# Altium integrated library Altera APEX 20KE.IntLib: 235 symbols (part 11 of 49)
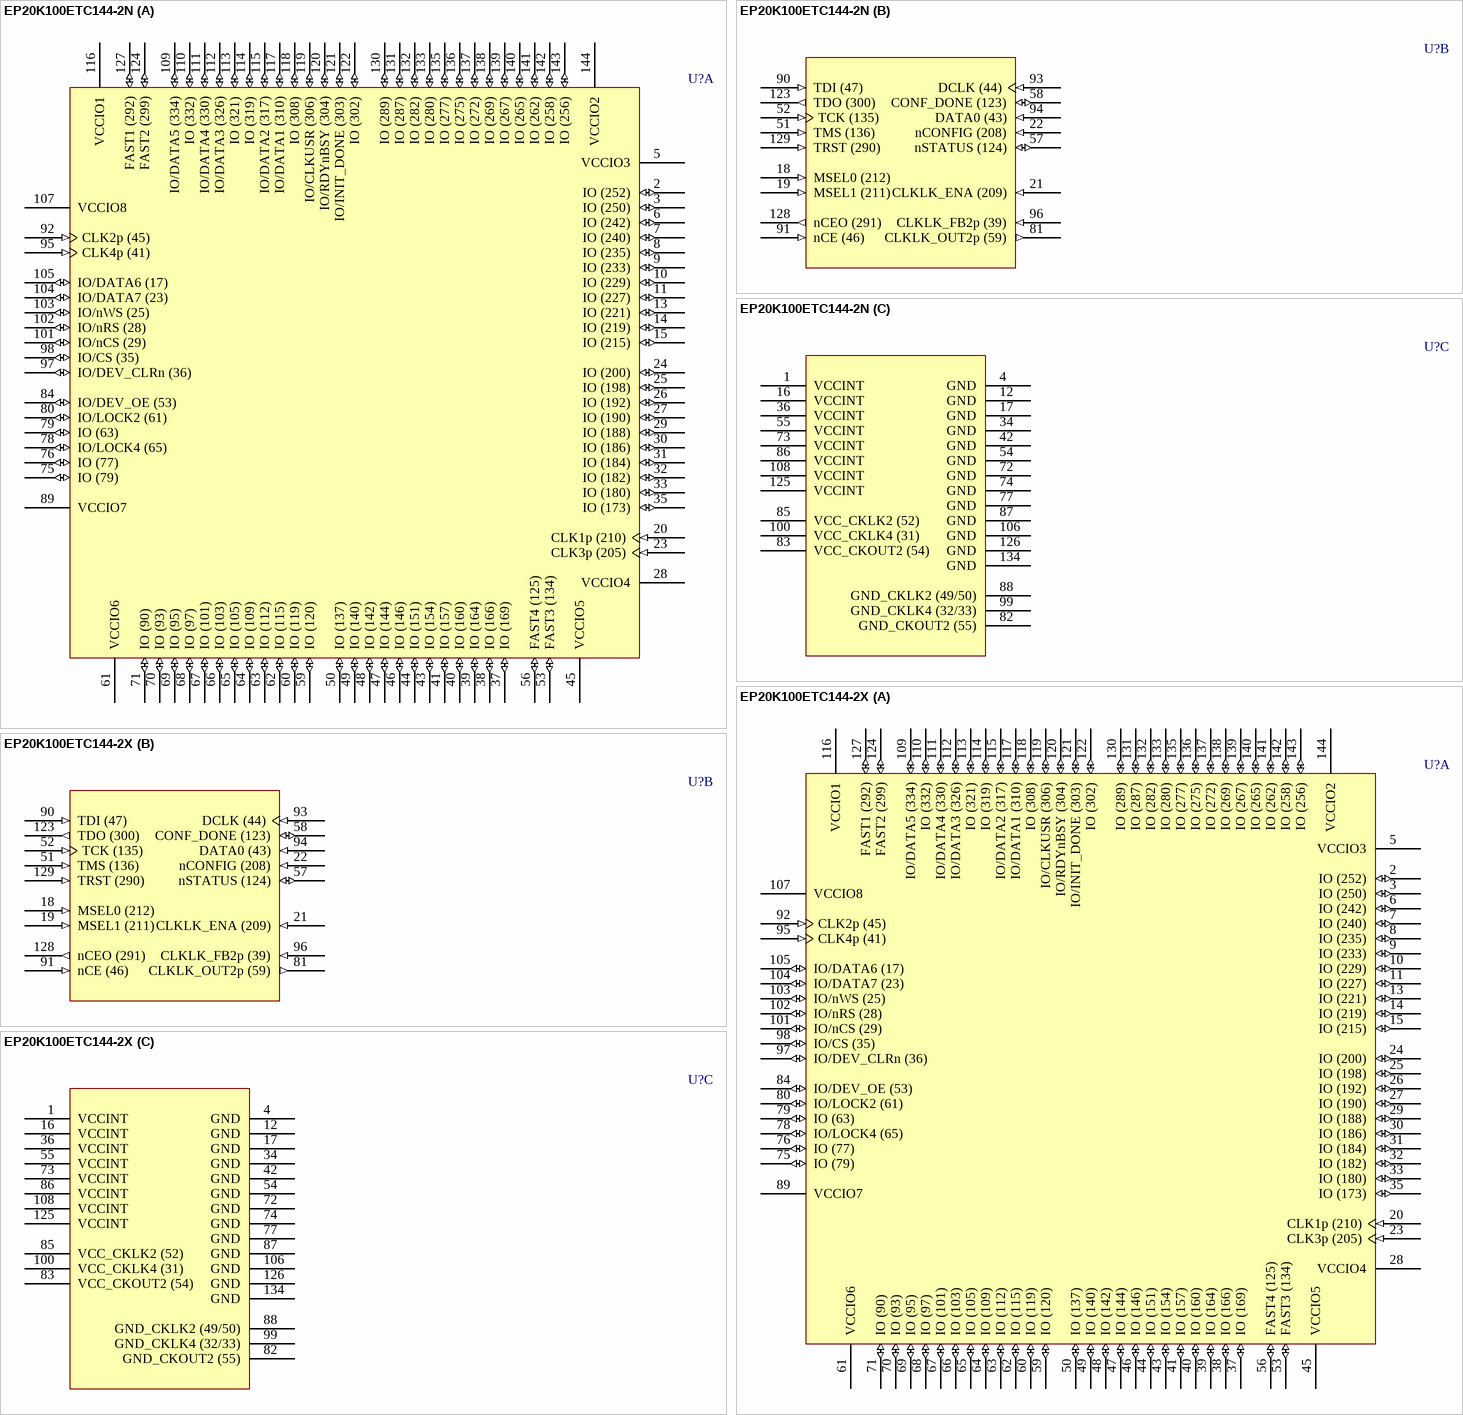
[diagram p409: symbols EP20K100ETC144-2N to EP20K100ETC144-2X]

## EP20K100ETC144-2N
designator U?
APEX 20K100E PLD, 144-Pin TQFP, Pb-Free, Commercial Grade, Speed Grade 2; Published: 4-Mar-2005; LatestRevisionDate: 13-Apr-2006; LatestRevisionNote: IPC-7351 Footprint Added.; DatasheetVersion: Mar-2004; PackageVersion: ver15.4, Dec-2008; PackageReference: TQFP144; Publisher: Altium Limited; PackageDescription: 144-Pin Plastic Thin Quad Flat Pack (TQFP144) - Wire Bond; Code_JEDEC: MS-026-BFB; ComponentLink1Description: Manufacturer Link; ComponentLink1URL: http://www.altera.com/products/devices/apex/apx-index.html; ComponentLink2Description: Datasheet; ComponentLink2URL: http://www.altera.com/literature/ds/apex.pdf
footprint TQFP144_N (Thin QFP, 144-Leads, Body 20x20mm, Pitch 0.5mm, IPC Medium Density)
footprint TQFP144_L (Thin QFP, 144-Leads, Body 20x20mm, Pitch 0.5mm, IPC High Density)
footprint TQFP144_M (Thin QFP, 144-Leads, Body 20x20mm, Pitch 0.5mm, IPC Low Density)
3D model EP20K100E-TQFP144 (144-Pin Plastic Thin Quad Flat Pack (TQFP144) - Wire Bond)
part A pins: 2 IO (252) (io), 3 IO (250) (io), 5 VCCIO3 (power), 6 IO (242) (io), 7 IO (240) (io), 8 IO (235) (io), 9 IO (233) (io), 10 IO (229) (io), 11 IO (227) (io), 13 IO (221) (io), 14 IO (219) (io), 15 IO (215) (io), 20 CLK1p (210) (in), 23 CLK3p (205) (in), 24 IO (200) (io), 25 IO (198) (io), 26 IO (192) (io), 27 IO (190) (io), 28 VCCIO4 (power), 29 IO (188) (io), 30 IO (186) (io), 31 IO (184) (io), 32 IO (182) (io), 33 IO (180) (io), 35 IO (173) (io), 37 IO (169) (io), 38 IO (166) (io), 39 IO (164) (io), 40 IO (160) (io), 41 IO (157) (io), 43 IO (154) (io), 44 IO (151) (io), 45 VCCIO5 (power), 46 IO (146) (io), 47 IO (144) (io), 48 IO (142) (io), 49 IO (140) (io), 50 IO (137) (io), 53 FAST3 (134) (io), 56 FAST4 (125) (io), 59 IO (120) (io), 60 IO (119) (io), 61 VCCIO6 (power), 62 IO (115) (io), 63 IO (112) (io), 64 IO (109) (io), 65 IO (105) (io), 66 IO (103) (io), 67 IO (101) (io), 68 IO (97) (io), 69 IO (95) (io), 70 IO (93) (io), 71 IO (90) (io), 75 IO (79) (io), 76 IO (77) (io), 78 IO/LOCK4 (65) (io), 79 IO (63) (io), 80 IO/LOCK2 (61) (io), 84 IO/DEV_OE (53) (io), 89 VCCIO7 (power), 92 CLK2p (45) (in), 95 CLK4p (41) (in), 97 IO/DEV_CLRn (36) (io), 98 IO/CS (35) (io), 101 IO/nCS (29) (io), 102 IO/nRS (28) (io), 103 IO/nWS (25) (io), 104 IO/DATA7 (23) (io), 105 IO/DATA6 (17) (io), 107 VCCIO8 (power), 109 IO/DATA5 (334) (io), 110 IO (332) (io), 111 IO/DATA4 (330) (io), 112 IO/DATA3 (326) (io), 113 IO (321) (io), 114 IO (319) (io), 115 IO/DATA2 (317) (io), 116 VCCIO1 (power), 117 IO/DATA1 (310) (io), 118 IO (308) (io), 119 IO/CLKUSR (306) (io), 120 IO/RDYnBSY (304) (io), 121 IO/INIT_DONE (303) (io), 122 IO (302) (io), 124 FAST2 (299) (io), 127 FAST1 (292) (io), 130 IO (289) (io), 131 IO (287) (io), 132 IO (282) (io), 133 IO (280) (io), 135 IO (277) (io), 136 IO (275) (io), 137 IO (272) (io), 138 IO (269) (io), 139 IO (267) (io), 140 IO (265) (io), 141 IO (262) (io), 142 IO (258) (io), 143 IO (256) (io), 144 VCCIO2 (power)
part B pins: 18 MSEL0 (212) (in), 19 MSEL1 (211) (in), 21 CLKLK_ENA (209) (in), 22 nCONFIG (208) (in), 51 TMS (136) (in), 52 TCK (135) (in), 57 nSTATUS (124) (io), 58 CONF_DONE (123) (io), 81 CLKLK_OUT2p (59) (out), 90 TDI (47) (in), 91 nCE (46) (in), 93 DCLK (44) (in), 94 DATA0 (43) (in), 96 CLKLK_FB2p (39) (in), 123 TDO (300) (out), 128 nCEO (291) (out), 129 TRST (290) (in)
part C pins: 1 VCCINT (power), 4 GND (power), 12 GND (power), 16 VCCINT (power), 17 GND (power), 34 GND (power), 36 VCCINT (power), 42 GND (power), 54 GND (power), 55 VCCINT (power), 72 GND (power), 73 VCCINT (power), 74 GND (power), 77 GND (power), 82 GND_CKOUT2 (55) (power), 83 VCC_CKOUT2 (54) (power), 85 VCC_CKLK2 (52) (power), 86 VCCINT (power), 87 GND (power), 88 GND_CKLK2 (49/50) (power), 99 GND_CKLK4 (32/33) (power), 100 VCC_CKLK4 (31) (power), 106 GND (power), 108 VCCINT (power), 125 VCCINT (power), 126 GND (power), 134 GND (power)

## EP20K100ETC144-2X
designator U?
APEX 20K100E PLD with PLLs and LVDS, 144-Pin TQFP, Commercial Grade, Speed Grade 2; Published: 17-Jul-2002; LatestRevisionDate: 13-Apr-2006; LatestRevisionNote: IPC-7351 Footprint Added.; DatasheetVersion: Mar-2004; PackageVersion: ver15.4, Dec-2008; PackageReference: TQFP144; Publisher: Altium Limited; PackageDescription: 144-Pin Plastic Thin Quad Flat Pack (TQFP144) - Wire Bond; Code_JEDEC: MS-026-BFB; ComponentLink1Description: Manufacturer Link; ComponentLink1URL: http://www.altera.com/products/devices/apex/apx-index.html; ComponentLink2Description: Datasheet; ComponentLink2URL: http://www.altera.com/literature/ds/apex.pdf
footprint TQFP144_N (Thin QFP, 144-Leads, Body 20x20mm, Pitch 0.5mm, IPC Medium Density)
footprint TQFP144_L (Thin QFP, 144-Leads, Body 20x20mm, Pitch 0.5mm, IPC High Density)
footprint TQFP144_M (Thin QFP, 144-Leads, Body 20x20mm, Pitch 0.5mm, IPC Low Density)
3D model EP20K100E-TQFP144 (144-Pin Plastic Thin Quad Flat Pack (TQFP144) - Wire Bond)
part A pins: 2 IO (252) (io), 3 IO (250) (io), 5 VCCIO3 (power), 6 IO (242) (io), 7 IO (240) (io), 8 IO (235) (io), 9 IO (233) (io), 10 IO (229) (io), 11 IO (227) (io), 13 IO (221) (io), 14 IO (219) (io), 15 IO (215) (io), 20 CLK1p (210) (in), 23 CLK3p (205) (in), 24 IO (200) (io), 25 IO (198) (io), 26 IO (192) (io), 27 IO (190) (io), 28 VCCIO4 (power), 29 IO (188) (io), 30 IO (186) (io), 31 IO (184) (io), 32 IO (182) (io), 33 IO (180) (io), 35 IO (173) (io), 37 IO (169) (io), 38 IO (166) (io), 39 IO (164) (io), 40 IO (160) (io), 41 IO (157) (io), 43 IO (154) (io), 44 IO (151) (io), 45 VCCIO5 (power), 46 IO (146) (io), 47 IO (144) (io), 48 IO (142) (io), 49 IO (140) (io), 50 IO (137) (io), 53 FAST3 (134) (io), 56 FAST4 (125) (io), 59 IO (120) (io), 60 IO (119) (io), 61 VCCIO6 (power), 62 IO (115) (io), 63 IO (112) (io), 64 IO (109) (io), 65 IO (105) (io), 66 IO (103) (io), 67 IO (101) (io), 68 IO (97) (io), 69 IO (95) (io), 70 IO (93) (io), 71 IO (90) (io), 75 IO (79) (io), 76 IO (77) (io), 78 IO/LOCK4 (65) (io), 79 IO (63) (io), 80 IO/LOCK2 (61) (io), 84 IO/DEV_OE (53) (io), 89 VCCIO7 (power), 92 CLK2p (45) (in), 95 CLK4p (41) (in), 97 IO/DEV_CLRn (36) (io), 98 IO/CS (35) (io), 101 IO/nCS (29) (io), 102 IO/nRS (28) (io), 103 IO/nWS (25) (io), 104 IO/DATA7 (23) (io), 105 IO/DATA6 (17) (io), 107 VCCIO8 (power), 109 IO/DATA5 (334) (io), 110 IO (332) (io), 111 IO/DATA4 (330) (io), 112 IO/DATA3 (326) (io), 113 IO (321) (io), 114 IO (319) (io), 115 IO/DATA2 (317) (io), 116 VCCIO1 (power), 117 IO/DATA1 (310) (io), 118 IO (308) (io), 119 IO/CLKUSR (306) (io), 120 IO/RDYnBSY (304) (io), 121 IO/INIT_DONE (303) (io), 122 IO (302) (io), 124 FAST2 (299) (io), 127 FAST1 (292) (io), 130 IO (289) (io), 131 IO (287) (io), 132 IO (282) (io), 133 IO (280) (io), 135 IO (277) (io), 136 IO (275) (io), 137 IO (272) (io), 138 IO (269) (io), 139 IO (267) (io), 140 IO (265) (io), 141 IO (262) (io), 142 IO (258) (io), 143 IO (256) (io), 144 VCCIO2 (power)
part B pins: 18 MSEL0 (212) (in), 19 MSEL1 (211) (in), 21 CLKLK_ENA (209) (in), 22 nCONFIG (208) (in), 51 TMS (136) (in), 52 TCK (135) (in), 57 nSTATUS (124) (io), 58 CONF_DONE (123) (io), 81 CLKLK_OUT2p (59) (out), 90 TDI (47) (in), 91 nCE (46) (in), 93 DCLK (44) (in), 94 DATA0 (43) (in), 96 CLKLK_FB2p (39) (in), 123 TDO (300) (out), 128 nCEO (291) (out), 129 TRST (290) (in)
part C pins: 1 VCCINT (power), 4 GND (power), 12 GND (power), 16 VCCINT (power), 17 GND (power), 34 GND (power), 36 VCCINT (power), 42 GND (power), 54 GND (power), 55 VCCINT (power), 72 GND (power), 73 VCCINT (power), 74 GND (power), 77 GND (power), 82 GND_CKOUT2 (55) (power), 83 VCC_CKOUT2 (54) (power), 85 VCC_CKLK2 (52) (power), 86 VCCINT (power), 87 GND (power), 88 GND_CKLK2 (49/50) (power), 99 GND_CKLK4 (32/33) (power), 100 VCC_CKLK4 (31) (power), 106 GND (power), 108 VCCINT (power), 125 VCCINT (power), 126 GND (power), 134 GND (power)

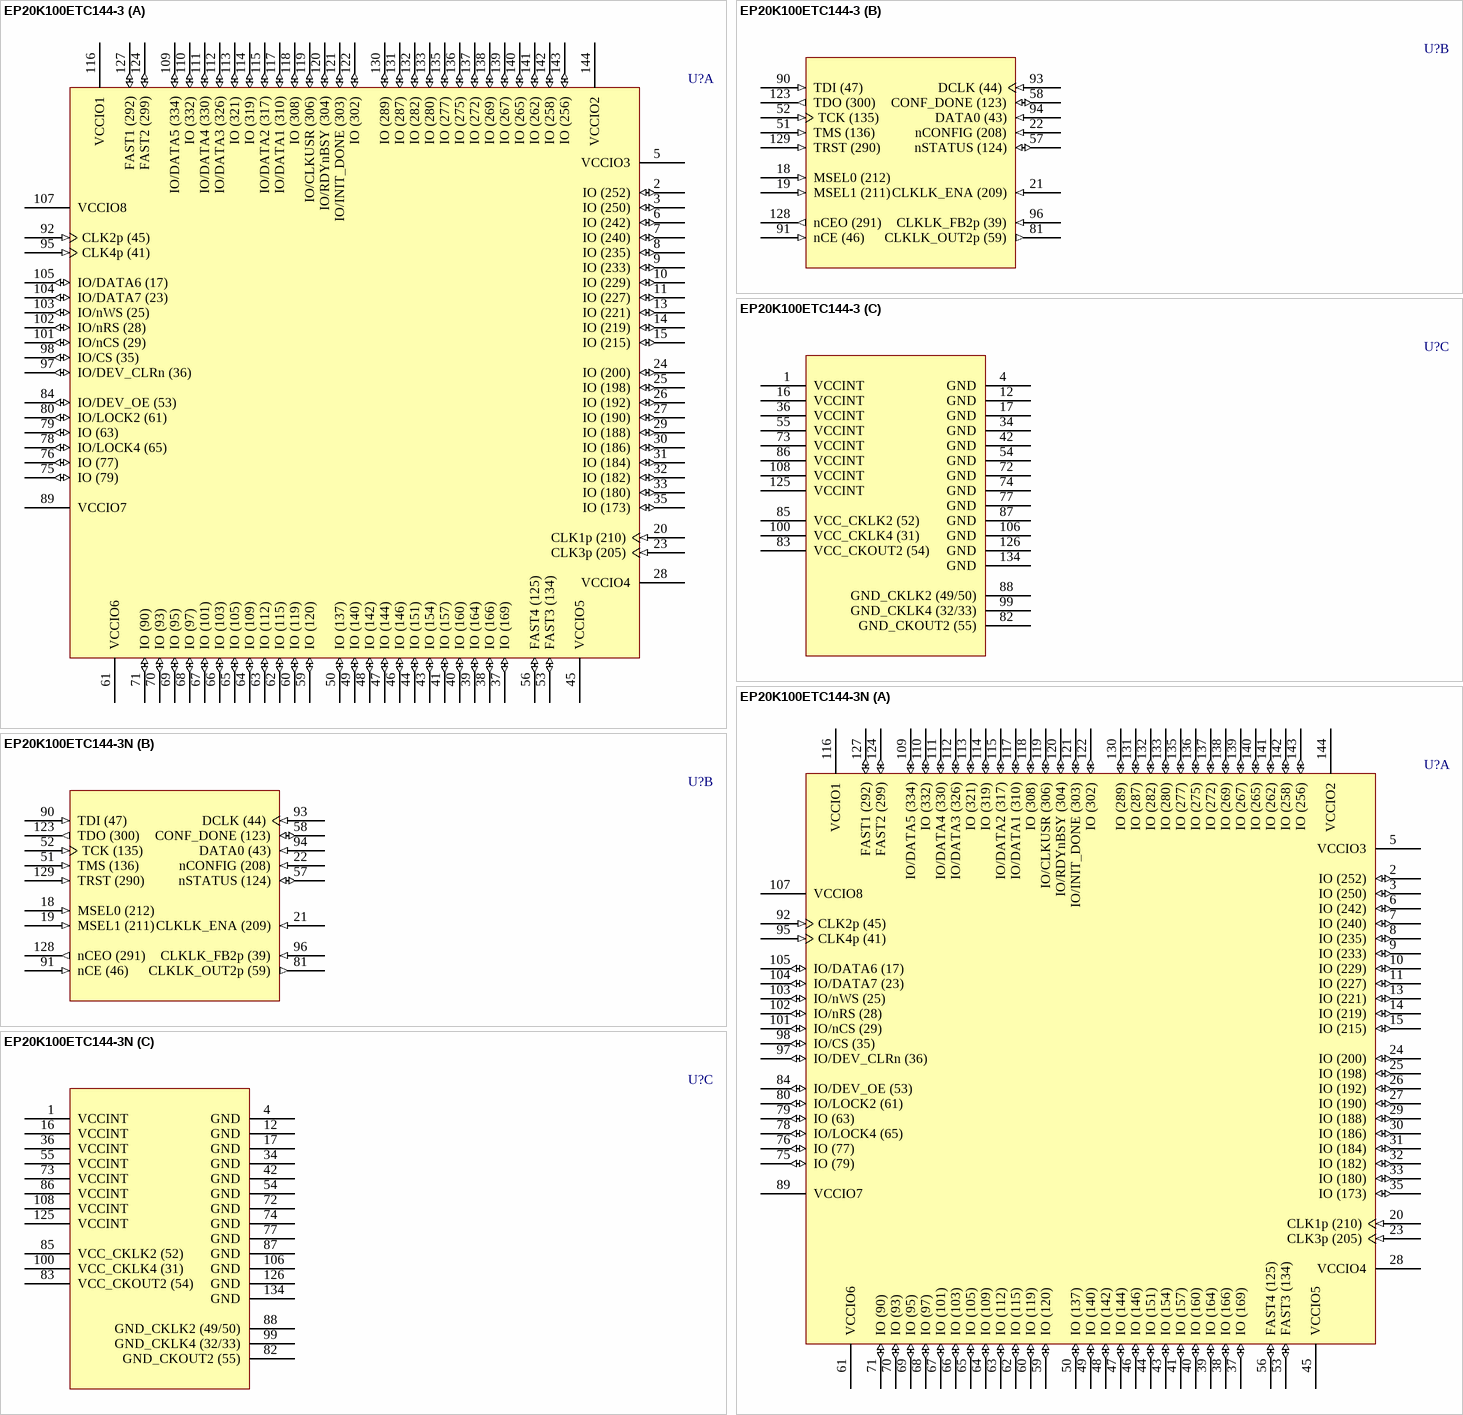
[diagram p111: symbols EP20K100ETC144-3 to EP20K100ETC144-3N]

## EP20K100ETC144-3
designator U?
APEX 20K100E PLD, 144-Pin TQFP, Commercial Grade, Speed Grade 3; Published: 17-Jul-2002; LatestRevisionDate: 13-Apr-2006; LatestRevisionNote: IPC-7351 Footprint Added.; DatasheetVersion: Mar-2004; PackageVersion: ver15.4, Dec-2008; PackageReference: TQFP144; Publisher: Altium Limited; PackageDescription: 144-Pin Plastic Thin Quad Flat Pack (TQFP144) - Wire Bond; Code_JEDEC: MS-026-BFB; ComponentLink1Description: Manufacturer Link; ComponentLink1URL: http://www.altera.com/products/devices/apex/apx-index.html; ComponentLink2Description: Datasheet; ComponentLink2URL: http://www.altera.com/literature/ds/apex.pdf
footprint TQFP144_N (Thin QFP, 144-Leads, Body 20x20mm, Pitch 0.5mm, IPC Medium Density)
footprint TQFP144_L (Thin QFP, 144-Leads, Body 20x20mm, Pitch 0.5mm, IPC High Density)
footprint TQFP144_M (Thin QFP, 144-Leads, Body 20x20mm, Pitch 0.5mm, IPC Low Density)
3D model EP20K100E-TQFP144 (144-Pin Plastic Thin Quad Flat Pack (TQFP144) - Wire Bond)
part A pins: 2 IO (252) (io), 3 IO (250) (io), 5 VCCIO3 (power), 6 IO (242) (io), 7 IO (240) (io), 8 IO (235) (io), 9 IO (233) (io), 10 IO (229) (io), 11 IO (227) (io), 13 IO (221) (io), 14 IO (219) (io), 15 IO (215) (io), 20 CLK1p (210) (in), 23 CLK3p (205) (in), 24 IO (200) (io), 25 IO (198) (io), 26 IO (192) (io), 27 IO (190) (io), 28 VCCIO4 (power), 29 IO (188) (io), 30 IO (186) (io), 31 IO (184) (io), 32 IO (182) (io), 33 IO (180) (io), 35 IO (173) (io), 37 IO (169) (io), 38 IO (166) (io), 39 IO (164) (io), 40 IO (160) (io), 41 IO (157) (io), 43 IO (154) (io), 44 IO (151) (io), 45 VCCIO5 (power), 46 IO (146) (io), 47 IO (144) (io), 48 IO (142) (io), 49 IO (140) (io), 50 IO (137) (io), 53 FAST3 (134) (io), 56 FAST4 (125) (io), 59 IO (120) (io), 60 IO (119) (io), 61 VCCIO6 (power), 62 IO (115) (io), 63 IO (112) (io), 64 IO (109) (io), 65 IO (105) (io), 66 IO (103) (io), 67 IO (101) (io), 68 IO (97) (io), 69 IO (95) (io), 70 IO (93) (io), 71 IO (90) (io), 75 IO (79) (io), 76 IO (77) (io), 78 IO/LOCK4 (65) (io), 79 IO (63) (io), 80 IO/LOCK2 (61) (io), 84 IO/DEV_OE (53) (io), 89 VCCIO7 (power), 92 CLK2p (45) (in), 95 CLK4p (41) (in), 97 IO/DEV_CLRn (36) (io), 98 IO/CS (35) (io), 101 IO/nCS (29) (io), 102 IO/nRS (28) (io), 103 IO/nWS (25) (io), 104 IO/DATA7 (23) (io), 105 IO/DATA6 (17) (io), 107 VCCIO8 (power), 109 IO/DATA5 (334) (io), 110 IO (332) (io), 111 IO/DATA4 (330) (io), 112 IO/DATA3 (326) (io), 113 IO (321) (io), 114 IO (319) (io), 115 IO/DATA2 (317) (io), 116 VCCIO1 (power), 117 IO/DATA1 (310) (io), 118 IO (308) (io), 119 IO/CLKUSR (306) (io), 120 IO/RDYnBSY (304) (io), 121 IO/INIT_DONE (303) (io), 122 IO (302) (io), 124 FAST2 (299) (io), 127 FAST1 (292) (io), 130 IO (289) (io), 131 IO (287) (io), 132 IO (282) (io), 133 IO (280) (io), 135 IO (277) (io), 136 IO (275) (io), 137 IO (272) (io), 138 IO (269) (io), 139 IO (267) (io), 140 IO (265) (io), 141 IO (262) (io), 142 IO (258) (io), 143 IO (256) (io), 144 VCCIO2 (power)
part B pins: 18 MSEL0 (212) (in), 19 MSEL1 (211) (in), 21 CLKLK_ENA (209) (in), 22 nCONFIG (208) (in), 51 TMS (136) (in), 52 TCK (135) (in), 57 nSTATUS (124) (io), 58 CONF_DONE (123) (io), 81 CLKLK_OUT2p (59) (out), 90 TDI (47) (in), 91 nCE (46) (in), 93 DCLK (44) (in), 94 DATA0 (43) (in), 96 CLKLK_FB2p (39) (in), 123 TDO (300) (out), 128 nCEO (291) (out), 129 TRST (290) (in)
part C pins: 1 VCCINT (power), 4 GND (power), 12 GND (power), 16 VCCINT (power), 17 GND (power), 34 GND (power), 36 VCCINT (power), 42 GND (power), 54 GND (power), 55 VCCINT (power), 72 GND (power), 73 VCCINT (power), 74 GND (power), 77 GND (power), 82 GND_CKOUT2 (55) (power), 83 VCC_CKOUT2 (54) (power), 85 VCC_CKLK2 (52) (power), 86 VCCINT (power), 87 GND (power), 88 GND_CKLK2 (49/50) (power), 99 GND_CKLK4 (32/33) (power), 100 VCC_CKLK4 (31) (power), 106 GND (power), 108 VCCINT (power), 125 VCCINT (power), 126 GND (power), 134 GND (power)

## EP20K100ETC144-3N
designator U?
APEX 20K100E PLD, 144-Pin TQFP, Pb-Free, Commercial Grade, Speed Grade 3; Published: 4-Mar-2005; LatestRevisionDate: 13-Apr-2006; LatestRevisionNote: IPC-7351 Footprint Added.; DatasheetVersion: Mar-2004; PackageVersion: ver15.4, Dec-2008; PackageReference: TQFP144; Publisher: Altium Limited; PackageDescription: 144-Pin Plastic Thin Quad Flat Pack (TQFP144) - Wire Bond; Code_JEDEC: MS-026-BFB; ComponentLink1Description: Manufacturer Link; ComponentLink1URL: http://www.altera.com/products/devices/apex/apx-index.html; ComponentLink2Description: Datasheet; ComponentLink2URL: http://www.altera.com/literature/ds/apex.pdf
footprint TQFP144_N (Thin QFP, 144-Leads, Body 20x20mm, Pitch 0.5mm, IPC Medium Density)
footprint TQFP144_L (Thin QFP, 144-Leads, Body 20x20mm, Pitch 0.5mm, IPC High Density)
footprint TQFP144_M (Thin QFP, 144-Leads, Body 20x20mm, Pitch 0.5mm, IPC Low Density)
3D model EP20K100E-TQFP144 (144-Pin Plastic Thin Quad Flat Pack (TQFP144) - Wire Bond)
part A pins: 2 IO (252) (io), 3 IO (250) (io), 5 VCCIO3 (power), 6 IO (242) (io), 7 IO (240) (io), 8 IO (235) (io), 9 IO (233) (io), 10 IO (229) (io), 11 IO (227) (io), 13 IO (221) (io), 14 IO (219) (io), 15 IO (215) (io), 20 CLK1p (210) (in), 23 CLK3p (205) (in), 24 IO (200) (io), 25 IO (198) (io), 26 IO (192) (io), 27 IO (190) (io), 28 VCCIO4 (power), 29 IO (188) (io), 30 IO (186) (io), 31 IO (184) (io), 32 IO (182) (io), 33 IO (180) (io), 35 IO (173) (io), 37 IO (169) (io), 38 IO (166) (io), 39 IO (164) (io), 40 IO (160) (io), 41 IO (157) (io), 43 IO (154) (io), 44 IO (151) (io), 45 VCCIO5 (power), 46 IO (146) (io), 47 IO (144) (io), 48 IO (142) (io), 49 IO (140) (io), 50 IO (137) (io), 53 FAST3 (134) (io), 56 FAST4 (125) (io), 59 IO (120) (io), 60 IO (119) (io), 61 VCCIO6 (power), 62 IO (115) (io), 63 IO (112) (io), 64 IO (109) (io), 65 IO (105) (io), 66 IO (103) (io), 67 IO (101) (io), 68 IO (97) (io), 69 IO (95) (io), 70 IO (93) (io), 71 IO (90) (io), 75 IO (79) (io), 76 IO (77) (io), 78 IO/LOCK4 (65) (io), 79 IO (63) (io), 80 IO/LOCK2 (61) (io), 84 IO/DEV_OE (53) (io), 89 VCCIO7 (power), 92 CLK2p (45) (in), 95 CLK4p (41) (in), 97 IO/DEV_CLRn (36) (io), 98 IO/CS (35) (io), 101 IO/nCS (29) (io), 102 IO/nRS (28) (io), 103 IO/nWS (25) (io), 104 IO/DATA7 (23) (io), 105 IO/DATA6 (17) (io), 107 VCCIO8 (power), 109 IO/DATA5 (334) (io), 110 IO (332) (io), 111 IO/DATA4 (330) (io), 112 IO/DATA3 (326) (io), 113 IO (321) (io), 114 IO (319) (io), 115 IO/DATA2 (317) (io), 116 VCCIO1 (power), 117 IO/DATA1 (310) (io), 118 IO (308) (io), 119 IO/CLKUSR (306) (io), 120 IO/RDYnBSY (304) (io), 121 IO/INIT_DONE (303) (io), 122 IO (302) (io), 124 FAST2 (299) (io), 127 FAST1 (292) (io), 130 IO (289) (io), 131 IO (287) (io), 132 IO (282) (io), 133 IO (280) (io), 135 IO (277) (io), 136 IO (275) (io), 137 IO (272) (io), 138 IO (269) (io), 139 IO (267) (io), 140 IO (265) (io), 141 IO (262) (io), 142 IO (258) (io), 143 IO (256) (io), 144 VCCIO2 (power)
part B pins: 18 MSEL0 (212) (in), 19 MSEL1 (211) (in), 21 CLKLK_ENA (209) (in), 22 nCONFIG (208) (in), 51 TMS (136) (in), 52 TCK (135) (in), 57 nSTATUS (124) (io), 58 CONF_DONE (123) (io), 81 CLKLK_OUT2p (59) (out), 90 TDI (47) (in), 91 nCE (46) (in), 93 DCLK (44) (in), 94 DATA0 (43) (in), 96 CLKLK_FB2p (39) (in), 123 TDO (300) (out), 128 nCEO (291) (out), 129 TRST (290) (in)
part C pins: 1 VCCINT (power), 4 GND (power), 12 GND (power), 16 VCCINT (power), 17 GND (power), 34 GND (power), 36 VCCINT (power), 42 GND (power), 54 GND (power), 55 VCCINT (power), 72 GND (power), 73 VCCINT (power), 74 GND (power), 77 GND (power), 82 GND_CKOUT2 (55) (power), 83 VCC_CKOUT2 (54) (power), 85 VCC_CKLK2 (52) (power), 86 VCCINT (power), 87 GND (power), 88 GND_CKLK2 (49/50) (power), 99 GND_CKLK4 (32/33) (power), 100 VCC_CKLK4 (31) (power), 106 GND (power), 108 VCCINT (power), 125 VCCINT (power), 126 GND (power), 134 GND (power)

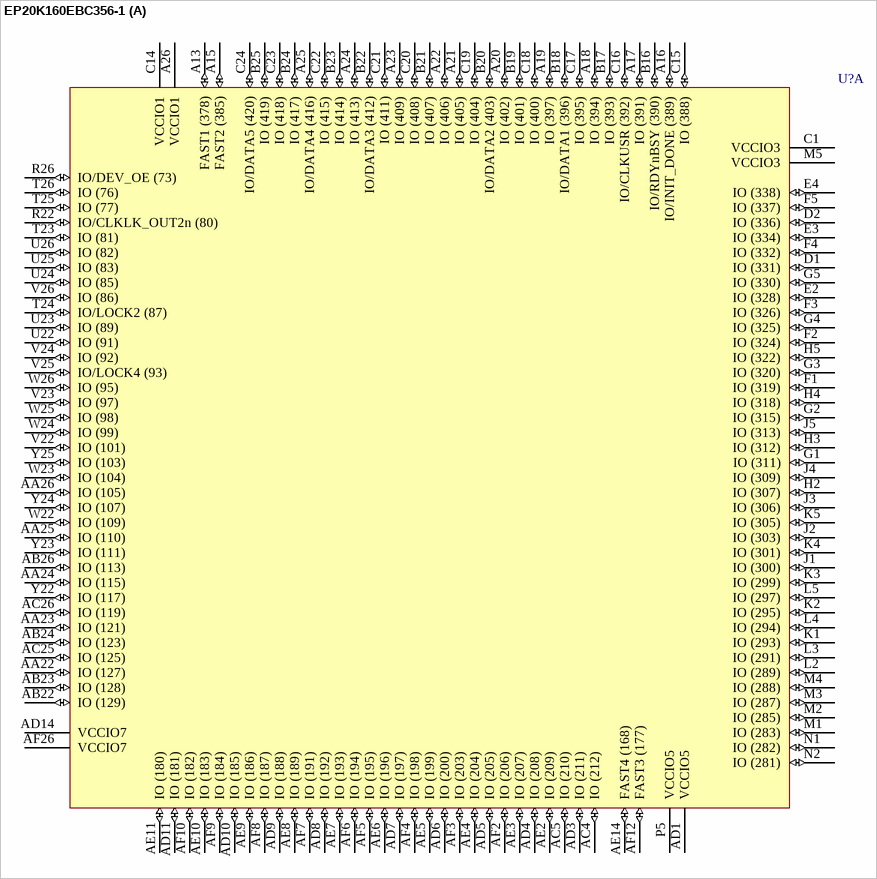
[diagram p112: symbol EP20K160EBC356-1]

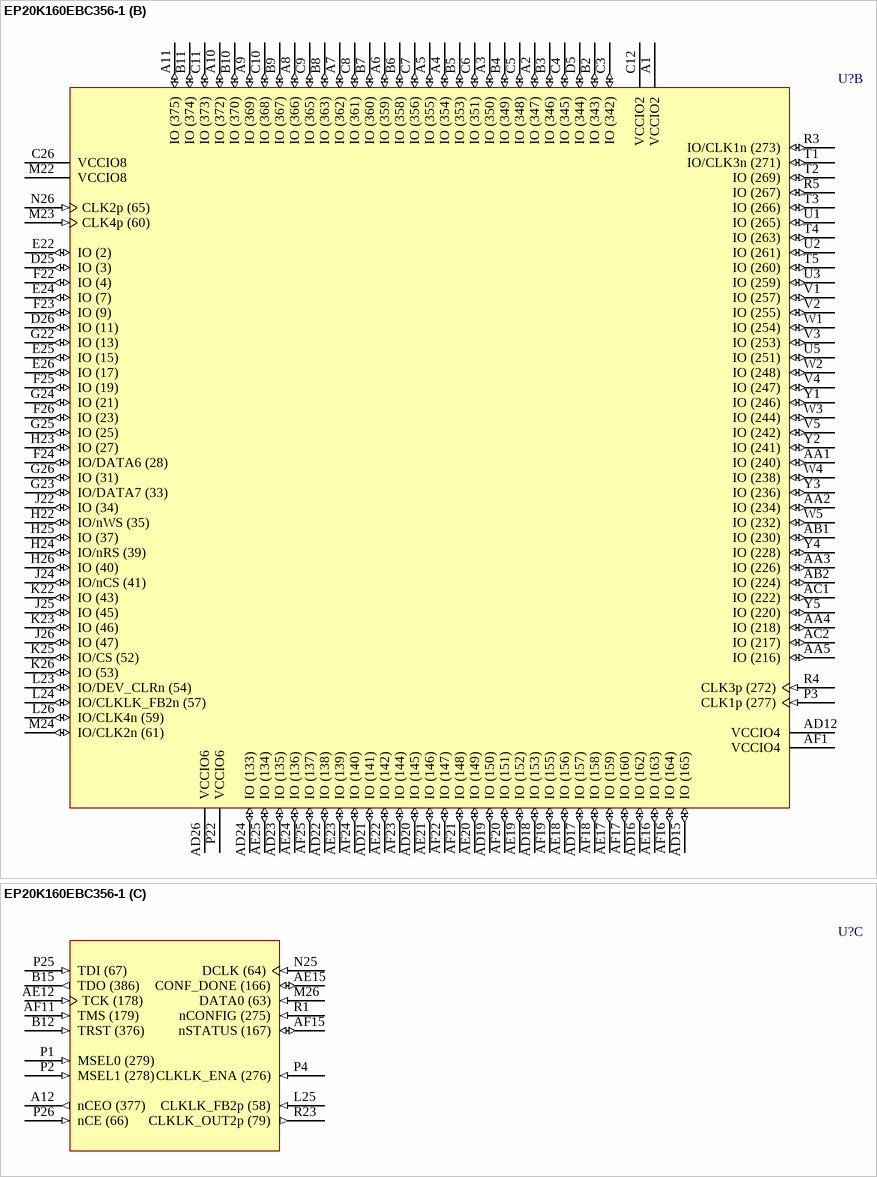
[diagram p113: symbol EP20K160EBC356-1]

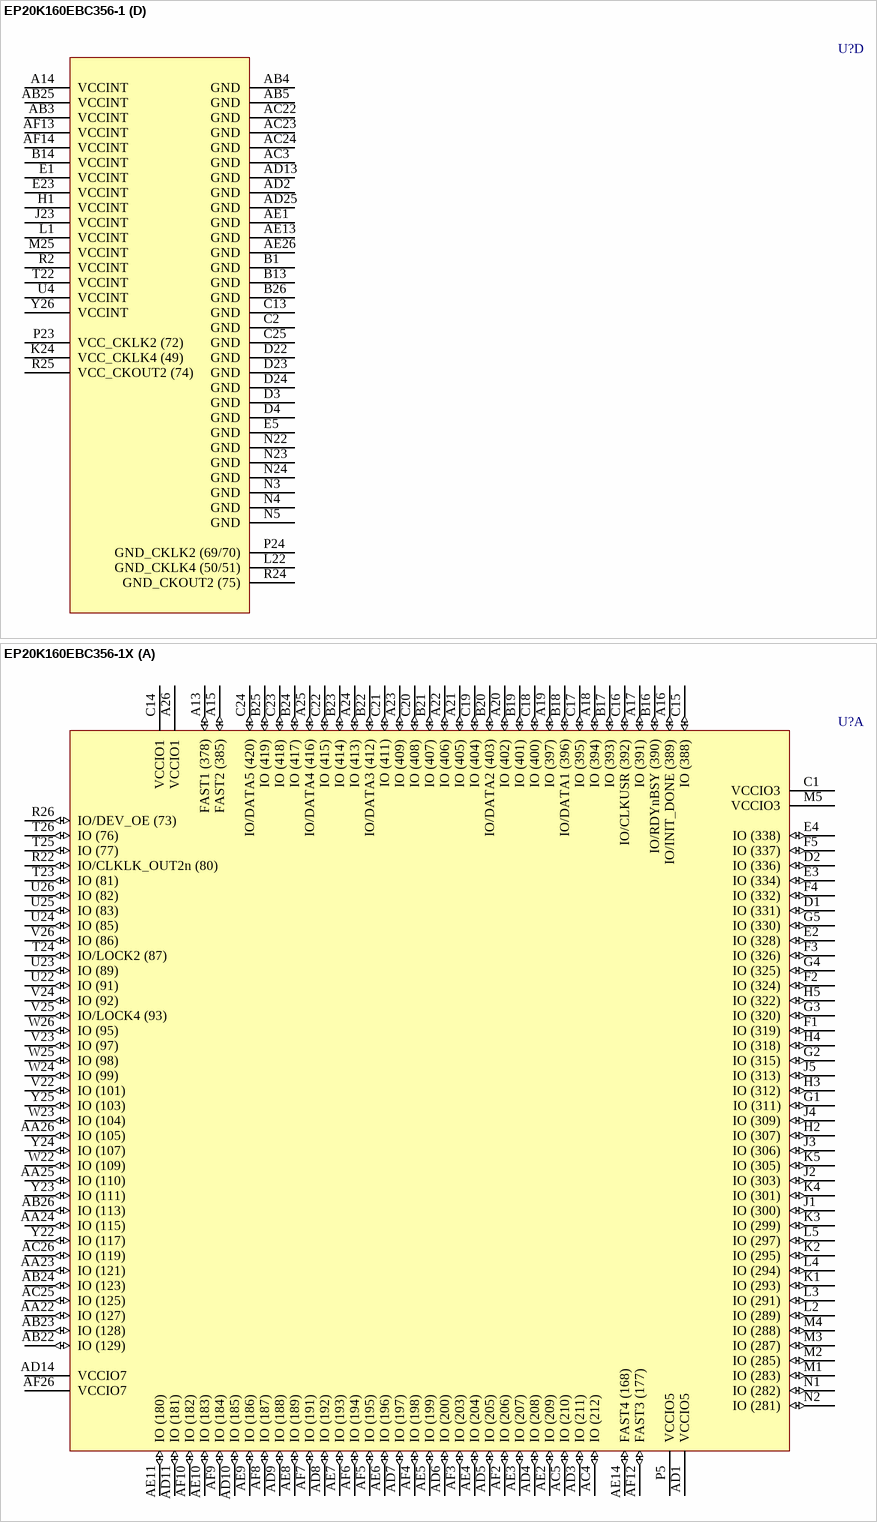
[diagram p114: symbols EP20K160EBC356-1 to EP20K160EBC356-1X]

## EP20K160EBC356-1
designator U?
APEX 20K160E PLD, 356-Pin BGA, Commercial Grade, Speed Grade 1; Published: 17-Jul-2002; LatestRevisionDate: 13-Apr-2006; LatestRevisionNote: IPC-7351 Footprint Added.; DatasheetVersion: Mar-2004; PackageVersion: ver14.2, Oct-2005; PackageReference: BGA356; Publisher: Altium Limited; PackageDescription: 356-Ball Ball Grid Array (BGA356); Code_JEDEC: MO-192-BAR-2; ComponentLink1Description: Manufacturer Link; ComponentLink1URL: http://www.altera.com/products/devices/apex/apx-index.html; ComponentLink2Description: Datasheet; ComponentLink2URL: http://www.altera.com/literature/ds/apex.pdf
footprint BGA356 (BGA, 356-Leads, Body 35x35mm, Pitch 1.27mm)
3D model EP20K160E-BGA356 (356-Ball Ball Grid Array (BGA356))
part A pins: A13 FAST1 (378) (io), A15 FAST2 (385) (io), A16 IO/INIT_DONE (389) (io), A17 IO (391) (io), A18 IO (394) (io), A19 IO (397) (io), A20 IO (402) (io), A21 IO (405) (io), A22 IO (406) (io), A23 IO (409) (io), A24 IO (413) (io), A25 IO/DATA4 (416) (io), A26 VCCIO1 (power), AA22 IO (127) (io), AA23 IO (121) (io), AA24 IO (115) (io), AA25 IO (110) (io), AA26 IO (105) (io), AB22 IO (129) (io), AB23 IO (128) (io), AB24 IO (123) (io), AB26 IO (113) (io), AC4 IO (212) (io), AC5 IO (210) (io), AC25 IO (125) (io), AC26 IO (119) (io), AD1 VCCIO5 (power), AD3 IO (211) (io), AD4 IO (208) (io), AD5 IO (205) (io), AD6 IO (200) (io), AD7 IO (197) (io), AD8 IO (192) (io), AD9 IO (188) (io), AD10 IO (185) (io), AD11 IO (181) (io), AD14 VCCIO7 (power), AE2 IO (209) (io), AE3 IO (207) (io), AE4 IO (204) (io), AE5 IO (199) (io), AE6 IO (196) (io), AE7 IO (193) (io), AE8 IO (189) (io), AE9 IO (186) (io), AE10 IO (183) (io), AE11 IO (180) (io), AE14 FAST4 (168) (io), AF2 IO (206) (io), AF3 IO (203) (io), AF4 IO (198) (io), AF5 IO (195) (io), AF6 IO (194) (io), AF7 IO (191) (io), AF8 IO (187) (io), AF9 IO (184) (io), AF10 IO (182) (io), AF12 FAST3 (177) (io), AF26 VCCIO7 (power), B16 IO/RDYnBSY (390) (io), B17 IO (393) (io), B18 IO/DATA1 (396) (io), B19 IO (401) (io), B20 IO/DATA2 (403) (io), B21 IO (407) (io), B22 IO/DATA3 (412) (io), B23 IO (414) (io), B24 IO (417) (io), B25 IO (419) (io), C1 VCCIO3 (power), C14 VCCIO1 (power), C15 IO (388) (io), C16 IO/CLKUSR (392) (io), C17 IO (395) (io), C18 IO (400) (io), C19 IO (404) (io), C20 IO (408) (io), C21 IO (411) (io), C22 IO (415) (io), C23 IO (418) (io), C24 IO/DATA5 (420) (io), D1 IO (331) (io), D2 IO (336) (io), E2 IO (328) (io), E3 IO (334) (io), E4 IO (338) (io), F1 IO (319) (io), F2 IO (324) (io), F3 IO (326) (io), F4 IO (332) (io), F5 IO (337) (io), G1 IO (311) (io), G2 IO (315) (io), G3 IO (320) (io), G4 IO (325) (io), G5 IO (330) (io), H2 IO (307) (io), H3 IO (312) (io), H4 IO (318) (io), H5 IO (322) (io), J1 IO (300) (io), J2 IO (303) (io), J3 IO (306) (io), J4 IO (309) (io), J5 IO (313) (io), K1 IO (293) (io), K2 IO (295) (io), K3 IO (299) (io), K4 IO (301) (io), K5 IO (305) (io), L2 IO (289) (io), L3 IO (291) (io), L4 IO (294) (io), L5 IO (297) (io), M1 IO (283) (io), M2 IO (285) (io), M3 IO (287) (io), M4 IO (288) (io), M5 VCCIO3 (power), N1 IO (282) (io), N2 IO (281) (io), P5 VCCIO5 (power), R22 IO/CLKLK_OUT2n (80) (io), R26 IO/DEV_OE (73) (io), T23 IO (81) (io), T24 IO/LOCK2 (87) (io), T25 IO (77) (io), T26 IO (76) (io), U22 IO (91) (io), U23 IO (89) (io), U24 IO (85) (io), U25 IO (83) (io), U26 IO (82) (io), V22 IO (101) (io), V23 IO (97) (io), V24 IO (92) (io), V25 IO/LOCK4 (93) (io), V26 IO (86) (io), W22 IO (109) (io), W23 IO (104) (io), W24 IO (99) (io), W25 IO (98) (io), W26 IO (95) (io), Y22 IO (117) (io), Y23 IO (111) (io), Y24 IO (107) (io), Y25 IO (103) (io)
part B pins: A1 VCCIO2 (power), A2 IO (347) (io), A3 IO (350) (io), A4 IO (354) (io), A5 IO (355) (io), A6 IO (359) (io), A7 IO (362) (io), A8 IO (366) (io), A9 IO (369) (io), A10 IO (372) (io), A11 IO (375) (io), AA1 IO (240) (io), AA2 IO (234) (io), AA3 IO (226) (io), AA4 IO (218) (io), AA5 IO (216) (io), AB1 IO (230) (io), AB2 IO (224) (io), AC1 IO (222) (io), AC2 IO (217) (io), AD12 VCCIO4 (power), AD15 IO (165) (io), AD16 IO (162) (io), AD17 IO (157) (io), AD18 IO (153) (io), AD19 IO (150) (io), AD20 IO (145) (io), AD21 IO (141) (io), AD22 IO (138) (io), AD23 IO (135) (io), AD24 IO (133) (io), AD26 VCCIO6 (power), AE16 IO (163) (io), AE17 IO (159) (io), AE18 IO (156) (io), AE19 IO (152) (io), AE20 IO (149) (io), AE21 IO (146) (io), AE22 IO (142) (io), AE23 IO (139) (io), AE24 IO (136) (io), AE25 IO (134) (io), AF1 VCCIO4 (power), AF16 IO (164) (io), AF17 IO (160) (io), AF18 IO (158) (io), AF19 IO (155) (io), AF20 IO (151) (io), AF21 IO (148) (io), AF22 IO (147) (io), AF23 IO (144) (io), AF24 IO (140) (io), AF25 IO (137) (io), B2 IO (343) (io), B3 IO (346) (io), B4 IO (349) (io), B5 IO (353) (io), B6 IO (358) (io), B7 IO (360) (io), B8 IO (363) (io), B9 IO (367) (io), B10 IO (370) (io), B11 IO (374) (io), C3 IO (342) (io), C4 IO (345) (io), C5 IO (348) (io), C6 IO (351) (io), C7 IO (356) (io), C8 IO (361) (io), C9 IO (365) (io), C10 IO (368) (io), C11 IO (373) (io), C12 VCCIO2 (power), C26 VCCIO8 (power), D5 IO (344) (io), D25 IO (3) (io), D26 IO (11) (io), E22 IO (2) (io), E24 IO (7) (io), E25 IO (15) (io), E26 IO (17) (io), F22 IO (4) (io), F23 IO (9) (io), F24 IO/DATA6 (28) (io), F25 IO (19) (io), F26 IO (23) (io), G22 IO (13) (io), G23 IO/DATA7 (33) (io), G24 IO (21) (io), G25 IO (25) (io), G26 IO (31) (io), H22 IO/nWS (35) (io), H23 IO (27) (io), H24 IO/nRS (39) (io), H25 IO (37) (io), H26 IO (40) (io), J22 IO (34) (io), J24 IO/nCS (41) (io), J25 IO (45) (io), J26 IO (47) (io), K22 IO (43) (io), K23 IO (46) (io), K25 IO/CS (52) (io), K26 IO (53) (io), L23 IO/DEV_CLRn (54) (io), L24 IO/CLKLK_FB2n (57) (io), L26 IO/CLK4n (59) (io), M22 VCCIO8 (power), M23 CLK4p (60) (in), M24 IO/CLK2n (61) (io), N26 CLK2p (65) (in), P3 CLK1p (277) (in), P22 VCCIO6 (power), R3 IO/CLK1n (273) (io), R4 CLK3p (272) (in), R5 IO (267) (io), T1 IO/CLK3n (271) (io), T2 IO (269) (io), T3 IO (266) (io), T4 IO (263) (io), T5 IO (260) (io), U1 IO (265) (io), U2 IO (261) (io), U3 IO (259) (io), U5 IO (251) (io), V1 IO (257) (io), V2 IO (255) (io), V3 IO (253) (io), V4 IO (247) (io), V5 IO (242) (io), W1 IO (254) (io), W2 IO (248) (io), W3 IO (244) (io), W4 IO (238) (io), W5 IO (232) (io), Y1 IO (246) (io), Y2 IO (241) (io), Y3 IO (236) (io), Y4 IO (228) (io), Y5 IO (220) (io)
part C pins: A12 nCEO (377) (out), AE12 TCK (178) (in), AE15 CONF_DONE (166) (io), AF11 TMS (179) (in), AF15 nSTATUS (167) (io), B12 TRST (376) (in), B15 TDO (386) (out), L25 CLKLK_FB2p (58) (in), M26 DATA0 (63) (in), N25 DCLK (64) (in), P1 MSEL0 (279) (in), P2 MSEL1 (278) (in), P4 CLKLK_ENA (276) (in), P25 TDI (67) (in), P26 nCE (66) (in), R1 nCONFIG (275) (in), R23 CLKLK_OUT2p (79) (out)
part D pins: A14 VCCINT (power), AB3 VCCINT (power), AB4 GND (power), AB5 GND (power), AB25 VCCINT (power), AC3 GND (power), AC22 GND (power), AC23 GND (power), AC24 GND (power), AD2 GND (power), AD13 GND (power), AD25 GND (power), AE1 GND (power), AE13 GND (power), AE26 GND (power), AF13 VCCINT (power), AF14 VCCINT (power), B1 GND (power), B13 GND (power), B14 VCCINT (power), B26 GND (power), C2 GND (power), C13 GND (power), C25 GND (power), D3 GND (power), D4 GND (power), D22 GND (power), D23 GND (power), D24 GND (power), E1 VCCINT (power), E5 GND (power), E23 VCCINT (power), H1 VCCINT (power), J23 VCCINT (power), K24 VCC_CKLK4 (49) (power), L1 VCCINT (power), L22 GND_CKLK4 (50/51) (power), M25 VCCINT (power), N3 GND (power), N4 GND (power), N5 GND (power), N22 GND (power), N23 GND (power), N24 GND (power), P23 VCC_CKLK2 (72) (power), P24 GND_CKLK2 (69/70) (power), R2 VCCINT (power), R24 GND_CKOUT2 (75) (power), R25 VCC_CKOUT2 (74) (power), T22 VCCINT (power), U4 VCCINT (power), Y26 VCCINT (power)

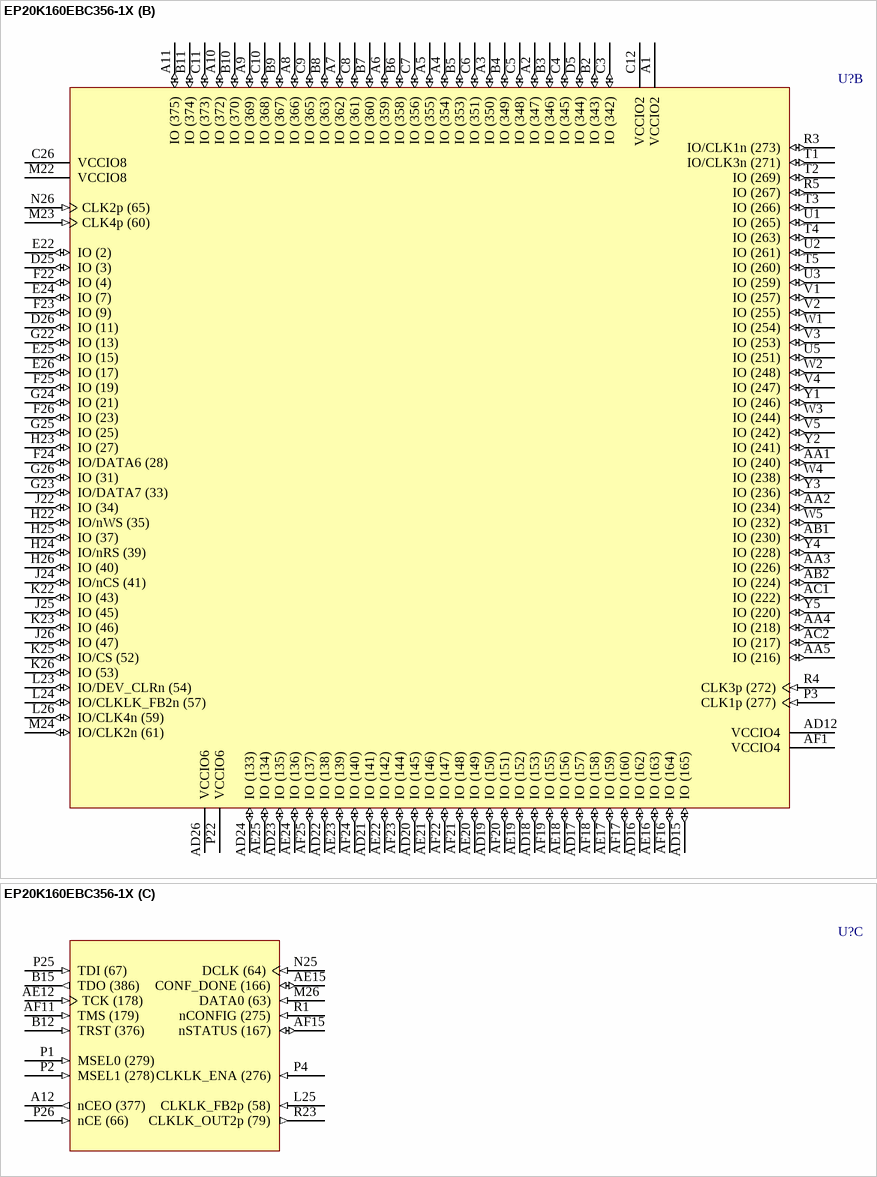
[diagram p115: symbol EP20K160EBC356-1X]

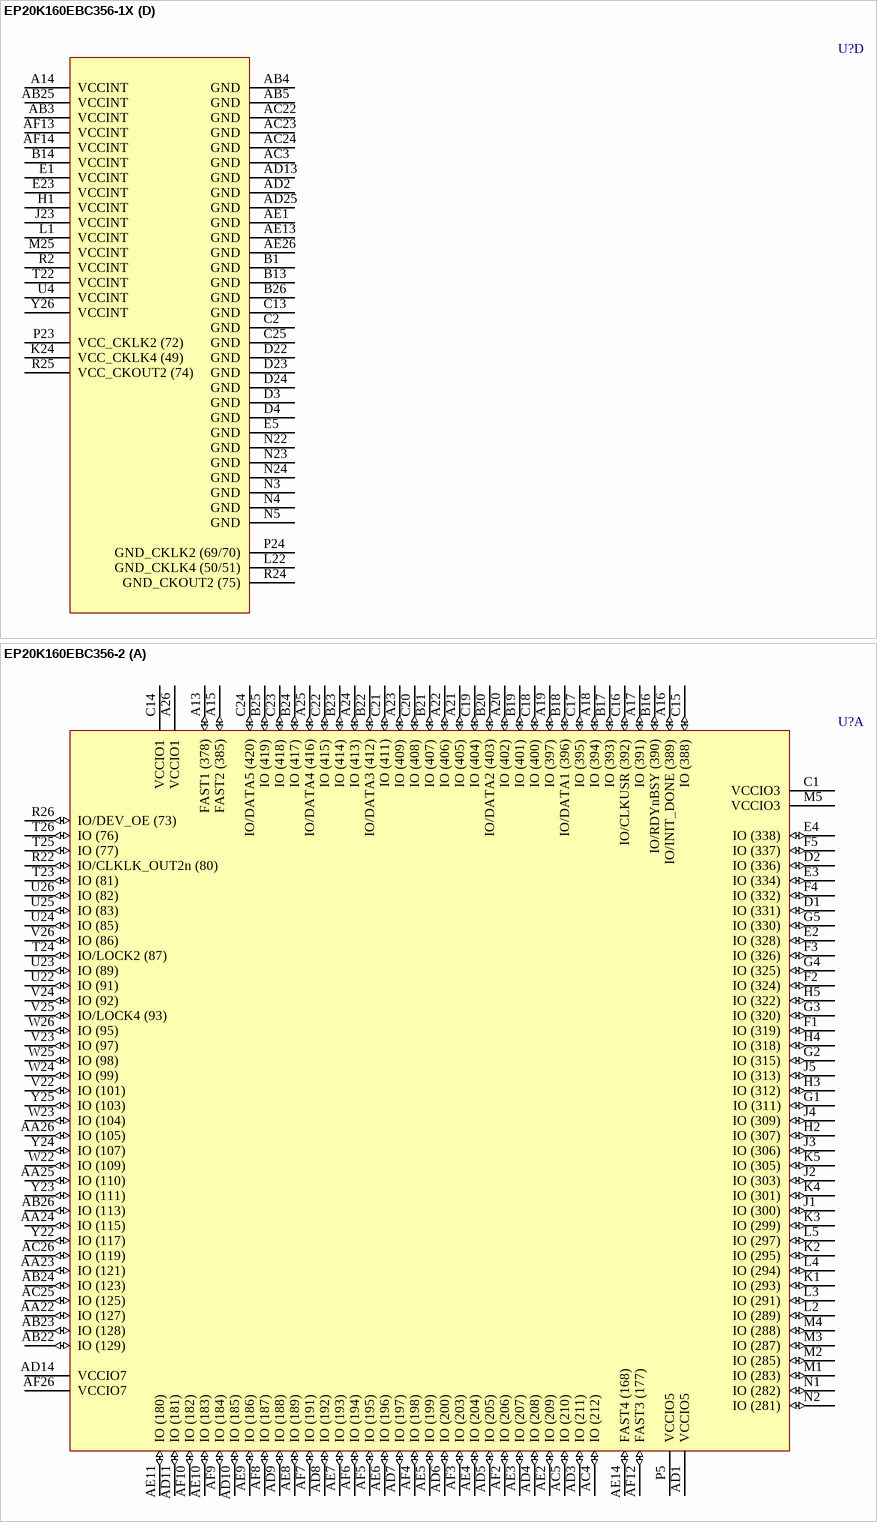
[diagram p116: symbols EP20K160EBC356-1X to EP20K160EBC356-2]

## EP20K160EBC356-1X
designator U?
APEX 20K160E PLD with PLLs and LVDS, 356-Pin BGA, Commercial Grade, Speed Grade 1; Published: 17-Jul-2002; LatestRevisionDate: 13-Apr-2006; LatestRevisionNote: IPC-7351 Footprint Added.; DatasheetVersion: Mar-2004; PackageVersion: ver14.2, Oct-2005; PackageReference: BGA356; Publisher: Altium Limited; PackageDescription: 356-Ball Ball Grid Array (BGA356); Code_JEDEC: MO-192-BAR-2; ComponentLink1Description: Manufacturer Link; ComponentLink1URL: http://www.altera.com/products/devices/apex/apx-index.html; ComponentLink2Description: Datasheet; ComponentLink2URL: http://www.altera.com/literature/ds/apex.pdf
footprint BGA356 (BGA, 356-Leads, Body 35x35mm, Pitch 1.27mm)
3D model EP20K160E-BGA356 (356-Ball Ball Grid Array (BGA356))
part A pins: A13 FAST1 (378) (io), A15 FAST2 (385) (io), A16 IO/INIT_DONE (389) (io), A17 IO (391) (io), A18 IO (394) (io), A19 IO (397) (io), A20 IO (402) (io), A21 IO (405) (io), A22 IO (406) (io), A23 IO (409) (io), A24 IO (413) (io), A25 IO/DATA4 (416) (io), A26 VCCIO1 (power), AA22 IO (127) (io), AA23 IO (121) (io), AA24 IO (115) (io), AA25 IO (110) (io), AA26 IO (105) (io), AB22 IO (129) (io), AB23 IO (128) (io), AB24 IO (123) (io), AB26 IO (113) (io), AC4 IO (212) (io), AC5 IO (210) (io), AC25 IO (125) (io), AC26 IO (119) (io), AD1 VCCIO5 (power), AD3 IO (211) (io), AD4 IO (208) (io), AD5 IO (205) (io), AD6 IO (200) (io), AD7 IO (197) (io), AD8 IO (192) (io), AD9 IO (188) (io), AD10 IO (185) (io), AD11 IO (181) (io), AD14 VCCIO7 (power), AE2 IO (209) (io), AE3 IO (207) (io), AE4 IO (204) (io), AE5 IO (199) (io), AE6 IO (196) (io), AE7 IO (193) (io), AE8 IO (189) (io), AE9 IO (186) (io), AE10 IO (183) (io), AE11 IO (180) (io), AE14 FAST4 (168) (io), AF2 IO (206) (io), AF3 IO (203) (io), AF4 IO (198) (io), AF5 IO (195) (io), AF6 IO (194) (io), AF7 IO (191) (io), AF8 IO (187) (io), AF9 IO (184) (io), AF10 IO (182) (io), AF12 FAST3 (177) (io), AF26 VCCIO7 (power), B16 IO/RDYnBSY (390) (io), B17 IO (393) (io), B18 IO/DATA1 (396) (io), B19 IO (401) (io), B20 IO/DATA2 (403) (io), B21 IO (407) (io), B22 IO/DATA3 (412) (io), B23 IO (414) (io), B24 IO (417) (io), B25 IO (419) (io), C1 VCCIO3 (power), C14 VCCIO1 (power), C15 IO (388) (io), C16 IO/CLKUSR (392) (io), C17 IO (395) (io), C18 IO (400) (io), C19 IO (404) (io), C20 IO (408) (io), C21 IO (411) (io), C22 IO (415) (io), C23 IO (418) (io), C24 IO/DATA5 (420) (io), D1 IO (331) (io), D2 IO (336) (io), E2 IO (328) (io), E3 IO (334) (io), E4 IO (338) (io), F1 IO (319) (io), F2 IO (324) (io), F3 IO (326) (io), F4 IO (332) (io), F5 IO (337) (io), G1 IO (311) (io), G2 IO (315) (io), G3 IO (320) (io), G4 IO (325) (io), G5 IO (330) (io), H2 IO (307) (io), H3 IO (312) (io), H4 IO (318) (io), H5 IO (322) (io), J1 IO (300) (io), J2 IO (303) (io), J3 IO (306) (io), J4 IO (309) (io), J5 IO (313) (io), K1 IO (293) (io), K2 IO (295) (io), K3 IO (299) (io), K4 IO (301) (io), K5 IO (305) (io), L2 IO (289) (io), L3 IO (291) (io), L4 IO (294) (io), L5 IO (297) (io), M1 IO (283) (io), M2 IO (285) (io), M3 IO (287) (io), M4 IO (288) (io), M5 VCCIO3 (power), N1 IO (282) (io), N2 IO (281) (io), P5 VCCIO5 (power), R22 IO/CLKLK_OUT2n (80) (io), R26 IO/DEV_OE (73) (io), T23 IO (81) (io), T24 IO/LOCK2 (87) (io), T25 IO (77) (io), T26 IO (76) (io), U22 IO (91) (io), U23 IO (89) (io), U24 IO (85) (io), U25 IO (83) (io), U26 IO (82) (io), V22 IO (101) (io), V23 IO (97) (io), V24 IO (92) (io), V25 IO/LOCK4 (93) (io), V26 IO (86) (io), W22 IO (109) (io), W23 IO (104) (io), W24 IO (99) (io), W25 IO (98) (io), W26 IO (95) (io), Y22 IO (117) (io), Y23 IO (111) (io), Y24 IO (107) (io), Y25 IO (103) (io)
part B pins: A1 VCCIO2 (power), A2 IO (347) (io), A3 IO (350) (io), A4 IO (354) (io), A5 IO (355) (io), A6 IO (359) (io), A7 IO (362) (io), A8 IO (366) (io), A9 IO (369) (io), A10 IO (372) (io), A11 IO (375) (io), AA1 IO (240) (io), AA2 IO (234) (io), AA3 IO (226) (io), AA4 IO (218) (io), AA5 IO (216) (io), AB1 IO (230) (io), AB2 IO (224) (io), AC1 IO (222) (io), AC2 IO (217) (io), AD12 VCCIO4 (power), AD15 IO (165) (io), AD16 IO (162) (io), AD17 IO (157) (io), AD18 IO (153) (io), AD19 IO (150) (io), AD20 IO (145) (io), AD21 IO (141) (io), AD22 IO (138) (io), AD23 IO (135) (io), AD24 IO (133) (io), AD26 VCCIO6 (power), AE16 IO (163) (io), AE17 IO (159) (io), AE18 IO (156) (io), AE19 IO (152) (io), AE20 IO (149) (io), AE21 IO (146) (io), AE22 IO (142) (io), AE23 IO (139) (io), AE24 IO (136) (io), AE25 IO (134) (io), AF1 VCCIO4 (power), AF16 IO (164) (io), AF17 IO (160) (io), AF18 IO (158) (io), AF19 IO (155) (io), AF20 IO (151) (io), AF21 IO (148) (io), AF22 IO (147) (io), AF23 IO (144) (io), AF24 IO (140) (io), AF25 IO (137) (io), B2 IO (343) (io), B3 IO (346) (io), B4 IO (349) (io), B5 IO (353) (io), B6 IO (358) (io), B7 IO (360) (io), B8 IO (363) (io), B9 IO (367) (io), B10 IO (370) (io), B11 IO (374) (io), C3 IO (342) (io), C4 IO (345) (io), C5 IO (348) (io), C6 IO (351) (io), C7 IO (356) (io), C8 IO (361) (io), C9 IO (365) (io), C10 IO (368) (io), C11 IO (373) (io), C12 VCCIO2 (power), C26 VCCIO8 (power), D5 IO (344) (io), D25 IO (3) (io), D26 IO (11) (io), E22 IO (2) (io), E24 IO (7) (io), E25 IO (15) (io), E26 IO (17) (io), F22 IO (4) (io), F23 IO (9) (io), F24 IO/DATA6 (28) (io), F25 IO (19) (io), F26 IO (23) (io), G22 IO (13) (io), G23 IO/DATA7 (33) (io), G24 IO (21) (io), G25 IO (25) (io), G26 IO (31) (io), H22 IO/nWS (35) (io), H23 IO (27) (io), H24 IO/nRS (39) (io), H25 IO (37) (io), H26 IO (40) (io), J22 IO (34) (io), J24 IO/nCS (41) (io), J25 IO (45) (io), J26 IO (47) (io), K22 IO (43) (io), K23 IO (46) (io), K25 IO/CS (52) (io), K26 IO (53) (io), L23 IO/DEV_CLRn (54) (io), L24 IO/CLKLK_FB2n (57) (io), L26 IO/CLK4n (59) (io), M22 VCCIO8 (power), M23 CLK4p (60) (in), M24 IO/CLK2n (61) (io), N26 CLK2p (65) (in), P3 CLK1p (277) (in), P22 VCCIO6 (power), R3 IO/CLK1n (273) (io), R4 CLK3p (272) (in), R5 IO (267) (io), T1 IO/CLK3n (271) (io), T2 IO (269) (io), T3 IO (266) (io), T4 IO (263) (io), T5 IO (260) (io), U1 IO (265) (io), U2 IO (261) (io), U3 IO (259) (io), U5 IO (251) (io), V1 IO (257) (io), V2 IO (255) (io), V3 IO (253) (io), V4 IO (247) (io), V5 IO (242) (io), W1 IO (254) (io), W2 IO (248) (io), W3 IO (244) (io), W4 IO (238) (io), W5 IO (232) (io), Y1 IO (246) (io), Y2 IO (241) (io), Y3 IO (236) (io), Y4 IO (228) (io), Y5 IO (220) (io)
part C pins: A12 nCEO (377) (out), AE12 TCK (178) (in), AE15 CONF_DONE (166) (io), AF11 TMS (179) (in), AF15 nSTATUS (167) (io), B12 TRST (376) (in), B15 TDO (386) (out), L25 CLKLK_FB2p (58) (in), M26 DATA0 (63) (in), N25 DCLK (64) (in), P1 MSEL0 (279) (in), P2 MSEL1 (278) (in), P4 CLKLK_ENA (276) (in), P25 TDI (67) (in), P26 nCE (66) (in), R1 nCONFIG (275) (in), R23 CLKLK_OUT2p (79) (out)
part D pins: A14 VCCINT (power), AB3 VCCINT (power), AB4 GND (power), AB5 GND (power), AB25 VCCINT (power), AC3 GND (power), AC22 GND (power), AC23 GND (power), AC24 GND (power), AD2 GND (power), AD13 GND (power), AD25 GND (power), AE1 GND (power), AE13 GND (power), AE26 GND (power), AF13 VCCINT (power), AF14 VCCINT (power), B1 GND (power), B13 GND (power), B14 VCCINT (power), B26 GND (power), C2 GND (power), C13 GND (power), C25 GND (power), D3 GND (power), D4 GND (power), D22 GND (power), D23 GND (power), D24 GND (power), E1 VCCINT (power), E5 GND (power), E23 VCCINT (power), H1 VCCINT (power), J23 VCCINT (power), K24 VCC_CKLK4 (49) (power), L1 VCCINT (power), L22 GND_CKLK4 (50/51) (power), M25 VCCINT (power), N3 GND (power), N4 GND (power), N5 GND (power), N22 GND (power), N23 GND (power), N24 GND (power), P23 VCC_CKLK2 (72) (power), P24 GND_CKLK2 (69/70) (power), R2 VCCINT (power), R24 GND_CKOUT2 (75) (power), R25 VCC_CKOUT2 (74) (power), T22 VCCINT (power), U4 VCCINT (power), Y26 VCCINT (power)

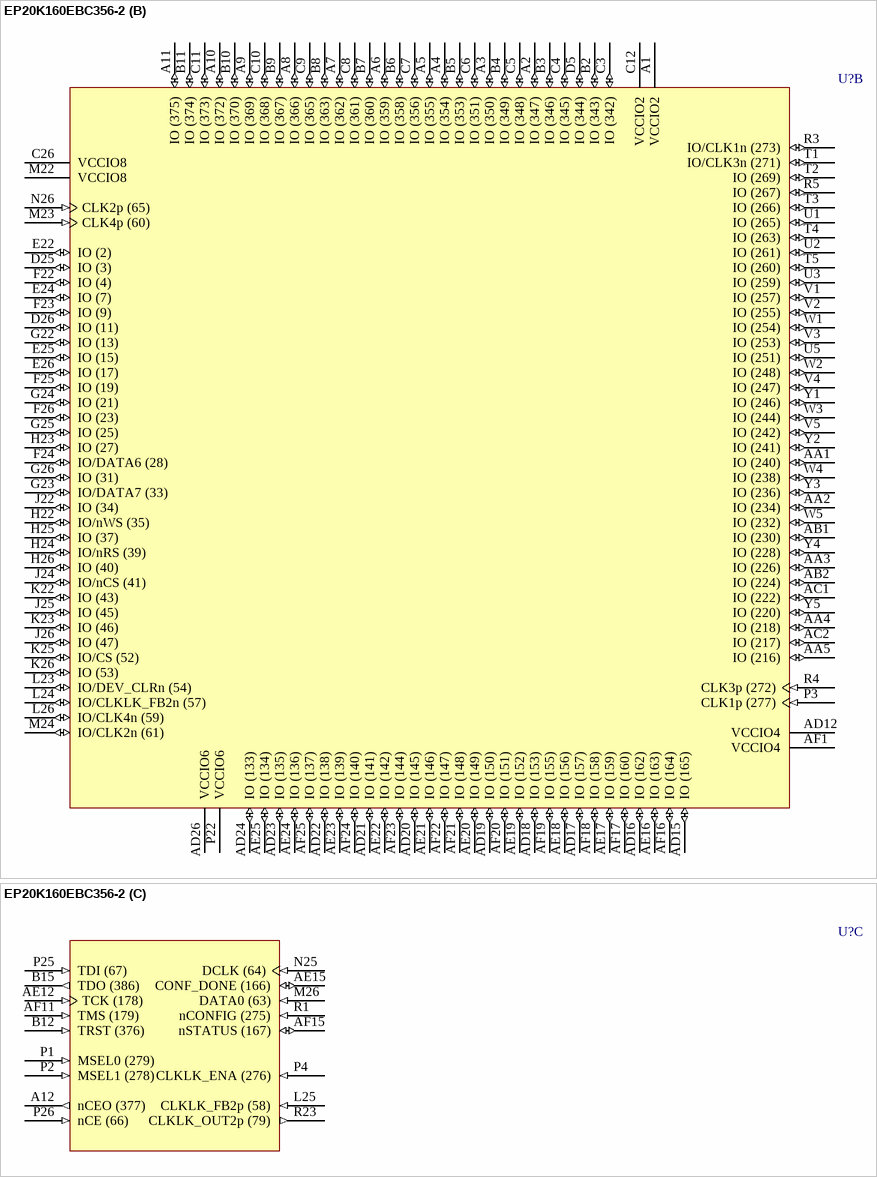
[diagram p117: symbol EP20K160EBC356-2]

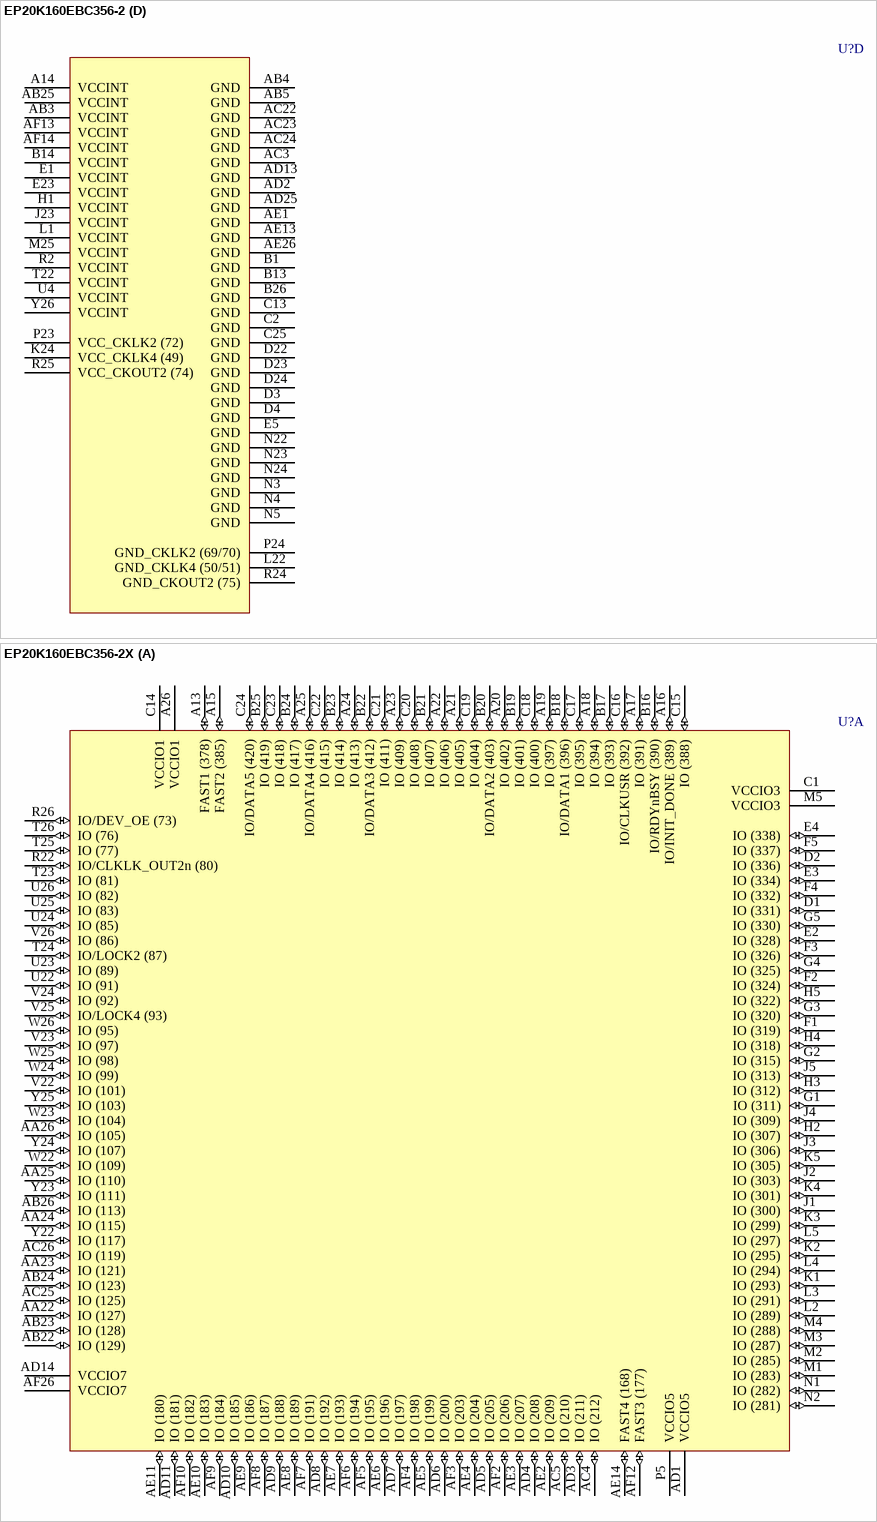
[diagram p118: symbols EP20K160EBC356-2 to EP20K160EBC356-2X]

## EP20K160EBC356-2
designator U?
APEX 20K160E PLD, 356-Pin BGA, Commercial Grade, Speed Grade 2; Published: 17-Jul-2002; LatestRevisionDate: 13-Apr-2006; LatestRevisionNote: IPC-7351 Footprint Added.; DatasheetVersion: Mar-2004; PackageVersion: ver14.2, Oct-2005; PackageReference: BGA356; Publisher: Altium Limited; PackageDescription: 356-Ball Ball Grid Array (BGA356); Code_JEDEC: MO-192-BAR-2; ComponentLink1Description: Manufacturer Link; ComponentLink1URL: http://www.altera.com/products/devices/apex/apx-index.html; ComponentLink2Description: Datasheet; ComponentLink2URL: http://www.altera.com/literature/ds/apex.pdf
footprint BGA356 (BGA, 356-Leads, Body 35x35mm, Pitch 1.27mm)
3D model EP20K160E-BGA356 (356-Ball Ball Grid Array (BGA356))
part A pins: A13 FAST1 (378) (io), A15 FAST2 (385) (io), A16 IO/INIT_DONE (389) (io), A17 IO (391) (io), A18 IO (394) (io), A19 IO (397) (io), A20 IO (402) (io), A21 IO (405) (io), A22 IO (406) (io), A23 IO (409) (io), A24 IO (413) (io), A25 IO/DATA4 (416) (io), A26 VCCIO1 (power), AA22 IO (127) (io), AA23 IO (121) (io), AA24 IO (115) (io), AA25 IO (110) (io), AA26 IO (105) (io), AB22 IO (129) (io), AB23 IO (128) (io), AB24 IO (123) (io), AB26 IO (113) (io), AC4 IO (212) (io), AC5 IO (210) (io), AC25 IO (125) (io), AC26 IO (119) (io), AD1 VCCIO5 (power), AD3 IO (211) (io), AD4 IO (208) (io), AD5 IO (205) (io), AD6 IO (200) (io), AD7 IO (197) (io), AD8 IO (192) (io), AD9 IO (188) (io), AD10 IO (185) (io), AD11 IO (181) (io), AD14 VCCIO7 (power), AE2 IO (209) (io), AE3 IO (207) (io), AE4 IO (204) (io), AE5 IO (199) (io), AE6 IO (196) (io), AE7 IO (193) (io), AE8 IO (189) (io), AE9 IO (186) (io), AE10 IO (183) (io), AE11 IO (180) (io), AE14 FAST4 (168) (io), AF2 IO (206) (io), AF3 IO (203) (io), AF4 IO (198) (io), AF5 IO (195) (io), AF6 IO (194) (io), AF7 IO (191) (io), AF8 IO (187) (io), AF9 IO (184) (io), AF10 IO (182) (io), AF12 FAST3 (177) (io), AF26 VCCIO7 (power), B16 IO/RDYnBSY (390) (io), B17 IO (393) (io), B18 IO/DATA1 (396) (io), B19 IO (401) (io), B20 IO/DATA2 (403) (io), B21 IO (407) (io), B22 IO/DATA3 (412) (io), B23 IO (414) (io), B24 IO (417) (io), B25 IO (419) (io), C1 VCCIO3 (power), C14 VCCIO1 (power), C15 IO (388) (io), C16 IO/CLKUSR (392) (io), C17 IO (395) (io), C18 IO (400) (io), C19 IO (404) (io), C20 IO (408) (io), C21 IO (411) (io), C22 IO (415) (io), C23 IO (418) (io), C24 IO/DATA5 (420) (io), D1 IO (331) (io), D2 IO (336) (io), E2 IO (328) (io), E3 IO (334) (io), E4 IO (338) (io), F1 IO (319) (io), F2 IO (324) (io), F3 IO (326) (io), F4 IO (332) (io), F5 IO (337) (io), G1 IO (311) (io), G2 IO (315) (io), G3 IO (320) (io), G4 IO (325) (io), G5 IO (330) (io), H2 IO (307) (io), H3 IO (312) (io), H4 IO (318) (io), H5 IO (322) (io), J1 IO (300) (io), J2 IO (303) (io), J3 IO (306) (io), J4 IO (309) (io), J5 IO (313) (io), K1 IO (293) (io), K2 IO (295) (io), K3 IO (299) (io), K4 IO (301) (io), K5 IO (305) (io), L2 IO (289) (io), L3 IO (291) (io), L4 IO (294) (io), L5 IO (297) (io), M1 IO (283) (io), M2 IO (285) (io), M3 IO (287) (io), M4 IO (288) (io), M5 VCCIO3 (power), N1 IO (282) (io), N2 IO (281) (io), P5 VCCIO5 (power), R22 IO/CLKLK_OUT2n (80) (io), R26 IO/DEV_OE (73) (io), T23 IO (81) (io), T24 IO/LOCK2 (87) (io), T25 IO (77) (io), T26 IO (76) (io), U22 IO (91) (io), U23 IO (89) (io), U24 IO (85) (io), U25 IO (83) (io), U26 IO (82) (io), V22 IO (101) (io), V23 IO (97) (io), V24 IO (92) (io), V25 IO/LOCK4 (93) (io), V26 IO (86) (io), W22 IO (109) (io), W23 IO (104) (io), W24 IO (99) (io), W25 IO (98) (io), W26 IO (95) (io), Y22 IO (117) (io), Y23 IO (111) (io), Y24 IO (107) (io), Y25 IO (103) (io)
part B pins: A1 VCCIO2 (power), A2 IO (347) (io), A3 IO (350) (io), A4 IO (354) (io), A5 IO (355) (io), A6 IO (359) (io), A7 IO (362) (io), A8 IO (366) (io), A9 IO (369) (io), A10 IO (372) (io), A11 IO (375) (io), AA1 IO (240) (io), AA2 IO (234) (io), AA3 IO (226) (io), AA4 IO (218) (io), AA5 IO (216) (io), AB1 IO (230) (io), AB2 IO (224) (io), AC1 IO (222) (io), AC2 IO (217) (io), AD12 VCCIO4 (power), AD15 IO (165) (io), AD16 IO (162) (io), AD17 IO (157) (io), AD18 IO (153) (io), AD19 IO (150) (io), AD20 IO (145) (io), AD21 IO (141) (io), AD22 IO (138) (io), AD23 IO (135) (io), AD24 IO (133) (io), AD26 VCCIO6 (power), AE16 IO (163) (io), AE17 IO (159) (io), AE18 IO (156) (io), AE19 IO (152) (io), AE20 IO (149) (io), AE21 IO (146) (io), AE22 IO (142) (io), AE23 IO (139) (io), AE24 IO (136) (io), AE25 IO (134) (io), AF1 VCCIO4 (power), AF16 IO (164) (io), AF17 IO (160) (io), AF18 IO (158) (io), AF19 IO (155) (io), AF20 IO (151) (io), AF21 IO (148) (io), AF22 IO (147) (io), AF23 IO (144) (io), AF24 IO (140) (io), AF25 IO (137) (io), B2 IO (343) (io), B3 IO (346) (io), B4 IO (349) (io), B5 IO (353) (io), B6 IO (358) (io), B7 IO (360) (io), B8 IO (363) (io), B9 IO (367) (io), B10 IO (370) (io), B11 IO (374) (io), C3 IO (342) (io), C4 IO (345) (io), C5 IO (348) (io), C6 IO (351) (io), C7 IO (356) (io), C8 IO (361) (io), C9 IO (365) (io), C10 IO (368) (io), C11 IO (373) (io), C12 VCCIO2 (power), C26 VCCIO8 (power), D5 IO (344) (io), D25 IO (3) (io), D26 IO (11) (io), E22 IO (2) (io), E24 IO (7) (io), E25 IO (15) (io), E26 IO (17) (io), F22 IO (4) (io), F23 IO (9) (io), F24 IO/DATA6 (28) (io), F25 IO (19) (io), F26 IO (23) (io), G22 IO (13) (io), G23 IO/DATA7 (33) (io), G24 IO (21) (io), G25 IO (25) (io), G26 IO (31) (io), H22 IO/nWS (35) (io), H23 IO (27) (io), H24 IO/nRS (39) (io), H25 IO (37) (io), H26 IO (40) (io), J22 IO (34) (io), J24 IO/nCS (41) (io), J25 IO (45) (io), J26 IO (47) (io), K22 IO (43) (io), K23 IO (46) (io), K25 IO/CS (52) (io), K26 IO (53) (io), L23 IO/DEV_CLRn (54) (io), L24 IO/CLKLK_FB2n (57) (io), L26 IO/CLK4n (59) (io), M22 VCCIO8 (power), M23 CLK4p (60) (in), M24 IO/CLK2n (61) (io), N26 CLK2p (65) (in), P3 CLK1p (277) (in), P22 VCCIO6 (power), R3 IO/CLK1n (273) (io), R4 CLK3p (272) (in), R5 IO (267) (io), T1 IO/CLK3n (271) (io), T2 IO (269) (io), T3 IO (266) (io), T4 IO (263) (io), T5 IO (260) (io), U1 IO (265) (io), U2 IO (261) (io), U3 IO (259) (io), U5 IO (251) (io), V1 IO (257) (io), V2 IO (255) (io), V3 IO (253) (io), V4 IO (247) (io), V5 IO (242) (io), W1 IO (254) (io), W2 IO (248) (io), W3 IO (244) (io), W4 IO (238) (io), W5 IO (232) (io), Y1 IO (246) (io), Y2 IO (241) (io), Y3 IO (236) (io), Y4 IO (228) (io), Y5 IO (220) (io)
part C pins: A12 nCEO (377) (out), AE12 TCK (178) (in), AE15 CONF_DONE (166) (io), AF11 TMS (179) (in), AF15 nSTATUS (167) (io), B12 TRST (376) (in), B15 TDO (386) (out), L25 CLKLK_FB2p (58) (in), M26 DATA0 (63) (in), N25 DCLK (64) (in), P1 MSEL0 (279) (in), P2 MSEL1 (278) (in), P4 CLKLK_ENA (276) (in), P25 TDI (67) (in), P26 nCE (66) (in), R1 nCONFIG (275) (in), R23 CLKLK_OUT2p (79) (out)
part D pins: A14 VCCINT (power), AB3 VCCINT (power), AB4 GND (power), AB5 GND (power), AB25 VCCINT (power), AC3 GND (power), AC22 GND (power), AC23 GND (power), AC24 GND (power), AD2 GND (power), AD13 GND (power), AD25 GND (power), AE1 GND (power), AE13 GND (power), AE26 GND (power), AF13 VCCINT (power), AF14 VCCINT (power), B1 GND (power), B13 GND (power), B14 VCCINT (power), B26 GND (power), C2 GND (power), C13 GND (power), C25 GND (power), D3 GND (power), D4 GND (power), D22 GND (power), D23 GND (power), D24 GND (power), E1 VCCINT (power), E5 GND (power), E23 VCCINT (power), H1 VCCINT (power), J23 VCCINT (power), K24 VCC_CKLK4 (49) (power), L1 VCCINT (power), L22 GND_CKLK4 (50/51) (power), M25 VCCINT (power), N3 GND (power), N4 GND (power), N5 GND (power), N22 GND (power), N23 GND (power), N24 GND (power), P23 VCC_CKLK2 (72) (power), P24 GND_CKLK2 (69/70) (power), R2 VCCINT (power), R24 GND_CKOUT2 (75) (power), R25 VCC_CKOUT2 (74) (power), T22 VCCINT (power), U4 VCCINT (power), Y26 VCCINT (power)

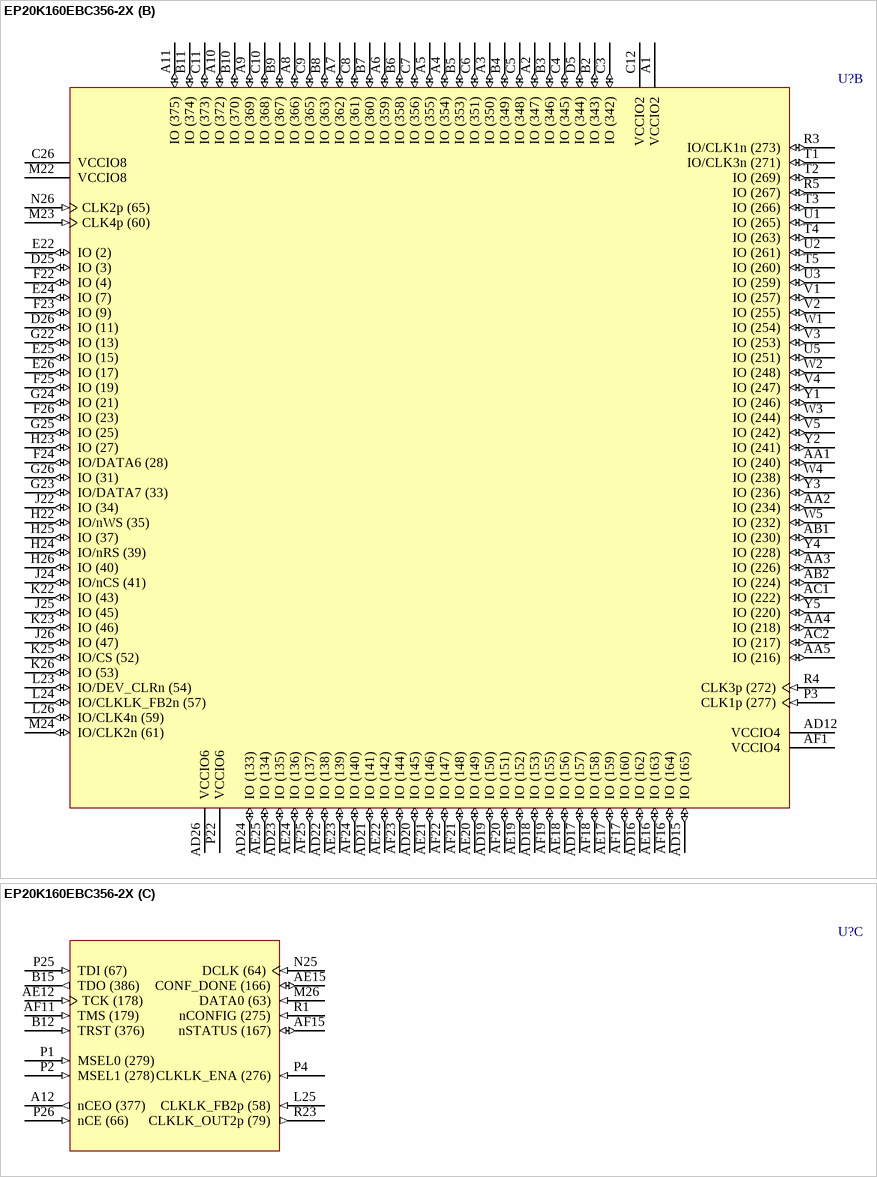
[diagram p119: symbol EP20K160EBC356-2X]

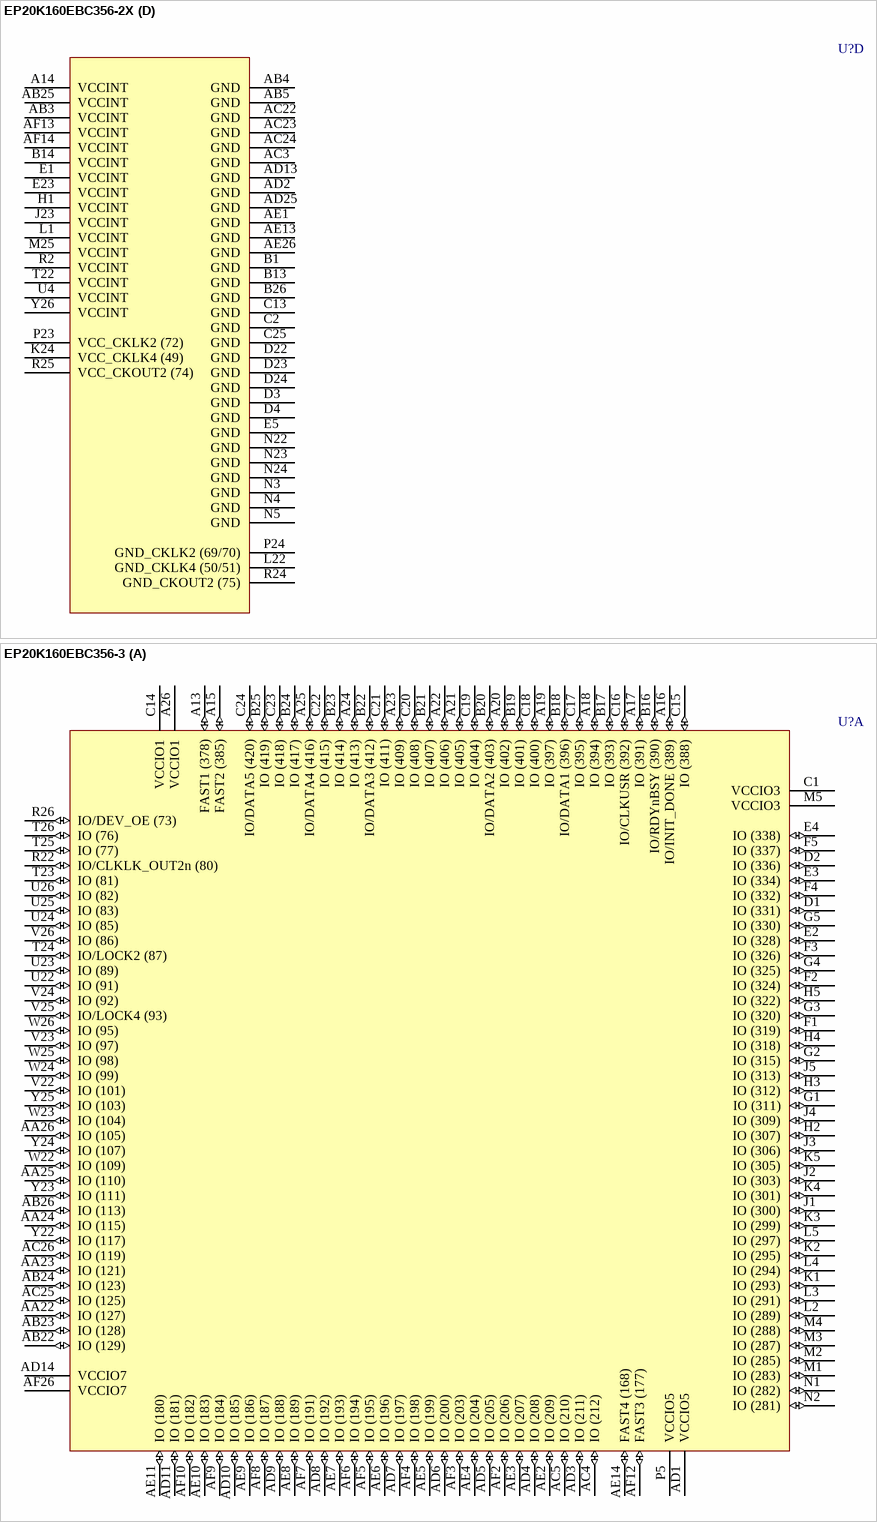
[diagram p120: symbols EP20K160EBC356-2X to EP20K160EBC356-3]

## EP20K160EBC356-2X
designator U?
APEX 20K160E PLD with PLLs and LVDS, 356-Pin BGA, Commercial Grade, Speed Grade 2; Published: 17-Jul-2002; LatestRevisionDate: 13-Apr-2006; LatestRevisionNote: IPC-7351 Footprint Added.; DatasheetVersion: Mar-2004; PackageVersion: ver14.2, Oct-2005; PackageReference: BGA356; Publisher: Altium Limited; PackageDescription: 356-Ball Ball Grid Array (BGA356); Code_JEDEC: MO-192-BAR-2; ComponentLink1Description: Manufacturer Link; ComponentLink1URL: http://www.altera.com/products/devices/apex/apx-index.html; ComponentLink2Description: Datasheet; ComponentLink2URL: http://www.altera.com/literature/ds/apex.pdf
footprint BGA356 (BGA, 356-Leads, Body 35x35mm, Pitch 1.27mm)
3D model EP20K160E-BGA356 (356-Ball Ball Grid Array (BGA356))
part A pins: A13 FAST1 (378) (io), A15 FAST2 (385) (io), A16 IO/INIT_DONE (389) (io), A17 IO (391) (io), A18 IO (394) (io), A19 IO (397) (io), A20 IO (402) (io), A21 IO (405) (io), A22 IO (406) (io), A23 IO (409) (io), A24 IO (413) (io), A25 IO/DATA4 (416) (io), A26 VCCIO1 (power), AA22 IO (127) (io), AA23 IO (121) (io), AA24 IO (115) (io), AA25 IO (110) (io), AA26 IO (105) (io), AB22 IO (129) (io), AB23 IO (128) (io), AB24 IO (123) (io), AB26 IO (113) (io), AC4 IO (212) (io), AC5 IO (210) (io), AC25 IO (125) (io), AC26 IO (119) (io), AD1 VCCIO5 (power), AD3 IO (211) (io), AD4 IO (208) (io), AD5 IO (205) (io), AD6 IO (200) (io), AD7 IO (197) (io), AD8 IO (192) (io), AD9 IO (188) (io), AD10 IO (185) (io), AD11 IO (181) (io), AD14 VCCIO7 (power), AE2 IO (209) (io), AE3 IO (207) (io), AE4 IO (204) (io), AE5 IO (199) (io), AE6 IO (196) (io), AE7 IO (193) (io), AE8 IO (189) (io), AE9 IO (186) (io), AE10 IO (183) (io), AE11 IO (180) (io), AE14 FAST4 (168) (io), AF2 IO (206) (io), AF3 IO (203) (io), AF4 IO (198) (io), AF5 IO (195) (io), AF6 IO (194) (io), AF7 IO (191) (io), AF8 IO (187) (io), AF9 IO (184) (io), AF10 IO (182) (io), AF12 FAST3 (177) (io), AF26 VCCIO7 (power), B16 IO/RDYnBSY (390) (io), B17 IO (393) (io), B18 IO/DATA1 (396) (io), B19 IO (401) (io), B20 IO/DATA2 (403) (io), B21 IO (407) (io), B22 IO/DATA3 (412) (io), B23 IO (414) (io), B24 IO (417) (io), B25 IO (419) (io), C1 VCCIO3 (power), C14 VCCIO1 (power), C15 IO (388) (io), C16 IO/CLKUSR (392) (io), C17 IO (395) (io), C18 IO (400) (io), C19 IO (404) (io), C20 IO (408) (io), C21 IO (411) (io), C22 IO (415) (io), C23 IO (418) (io), C24 IO/DATA5 (420) (io), D1 IO (331) (io), D2 IO (336) (io), E2 IO (328) (io), E3 IO (334) (io), E4 IO (338) (io), F1 IO (319) (io), F2 IO (324) (io), F3 IO (326) (io), F4 IO (332) (io), F5 IO (337) (io), G1 IO (311) (io), G2 IO (315) (io), G3 IO (320) (io), G4 IO (325) (io), G5 IO (330) (io), H2 IO (307) (io), H3 IO (312) (io), H4 IO (318) (io), H5 IO (322) (io), J1 IO (300) (io), J2 IO (303) (io), J3 IO (306) (io), J4 IO (309) (io), J5 IO (313) (io), K1 IO (293) (io), K2 IO (295) (io), K3 IO (299) (io), K4 IO (301) (io), K5 IO (305) (io), L2 IO (289) (io), L3 IO (291) (io), L4 IO (294) (io), L5 IO (297) (io), M1 IO (283) (io), M2 IO (285) (io), M3 IO (287) (io), M4 IO (288) (io), M5 VCCIO3 (power), N1 IO (282) (io), N2 IO (281) (io), P5 VCCIO5 (power), R22 IO/CLKLK_OUT2n (80) (io), R26 IO/DEV_OE (73) (io), T23 IO (81) (io), T24 IO/LOCK2 (87) (io), T25 IO (77) (io), T26 IO (76) (io), U22 IO (91) (io), U23 IO (89) (io), U24 IO (85) (io), U25 IO (83) (io), U26 IO (82) (io), V22 IO (101) (io), V23 IO (97) (io), V24 IO (92) (io), V25 IO/LOCK4 (93) (io), V26 IO (86) (io), W22 IO (109) (io), W23 IO (104) (io), W24 IO (99) (io), W25 IO (98) (io), W26 IO (95) (io), Y22 IO (117) (io), Y23 IO (111) (io), Y24 IO (107) (io), Y25 IO (103) (io)
part B pins: A1 VCCIO2 (power), A2 IO (347) (io), A3 IO (350) (io), A4 IO (354) (io), A5 IO (355) (io), A6 IO (359) (io), A7 IO (362) (io), A8 IO (366) (io), A9 IO (369) (io), A10 IO (372) (io), A11 IO (375) (io), AA1 IO (240) (io), AA2 IO (234) (io), AA3 IO (226) (io), AA4 IO (218) (io), AA5 IO (216) (io), AB1 IO (230) (io), AB2 IO (224) (io), AC1 IO (222) (io), AC2 IO (217) (io), AD12 VCCIO4 (power), AD15 IO (165) (io), AD16 IO (162) (io), AD17 IO (157) (io), AD18 IO (153) (io), AD19 IO (150) (io), AD20 IO (145) (io), AD21 IO (141) (io), AD22 IO (138) (io), AD23 IO (135) (io), AD24 IO (133) (io), AD26 VCCIO6 (power), AE16 IO (163) (io), AE17 IO (159) (io), AE18 IO (156) (io), AE19 IO (152) (io), AE20 IO (149) (io), AE21 IO (146) (io), AE22 IO (142) (io), AE23 IO (139) (io), AE24 IO (136) (io), AE25 IO (134) (io), AF1 VCCIO4 (power), AF16 IO (164) (io), AF17 IO (160) (io), AF18 IO (158) (io), AF19 IO (155) (io), AF20 IO (151) (io), AF21 IO (148) (io), AF22 IO (147) (io), AF23 IO (144) (io), AF24 IO (140) (io), AF25 IO (137) (io), B2 IO (343) (io), B3 IO (346) (io), B4 IO (349) (io), B5 IO (353) (io), B6 IO (358) (io), B7 IO (360) (io), B8 IO (363) (io), B9 IO (367) (io), B10 IO (370) (io), B11 IO (374) (io), C3 IO (342) (io), C4 IO (345) (io), C5 IO (348) (io), C6 IO (351) (io), C7 IO (356) (io), C8 IO (361) (io), C9 IO (365) (io), C10 IO (368) (io), C11 IO (373) (io), C12 VCCIO2 (power), C26 VCCIO8 (power), D5 IO (344) (io), D25 IO (3) (io), D26 IO (11) (io), E22 IO (2) (io), E24 IO (7) (io), E25 IO (15) (io), E26 IO (17) (io), F22 IO (4) (io), F23 IO (9) (io), F24 IO/DATA6 (28) (io), F25 IO (19) (io), F26 IO (23) (io), G22 IO (13) (io), G23 IO/DATA7 (33) (io), G24 IO (21) (io), G25 IO (25) (io), G26 IO (31) (io), H22 IO/nWS (35) (io), H23 IO (27) (io), H24 IO/nRS (39) (io), H25 IO (37) (io), H26 IO (40) (io), J22 IO (34) (io), J24 IO/nCS (41) (io), J25 IO (45) (io), J26 IO (47) (io), K22 IO (43) (io), K23 IO (46) (io), K25 IO/CS (52) (io), K26 IO (53) (io), L23 IO/DEV_CLRn (54) (io), L24 IO/CLKLK_FB2n (57) (io), L26 IO/CLK4n (59) (io), M22 VCCIO8 (power), M23 CLK4p (60) (in), M24 IO/CLK2n (61) (io), N26 CLK2p (65) (in), P3 CLK1p (277) (in), P22 VCCIO6 (power), R3 IO/CLK1n (273) (io), R4 CLK3p (272) (in), R5 IO (267) (io), T1 IO/CLK3n (271) (io), T2 IO (269) (io), T3 IO (266) (io), T4 IO (263) (io), T5 IO (260) (io), U1 IO (265) (io), U2 IO (261) (io), U3 IO (259) (io), U5 IO (251) (io), V1 IO (257) (io), V2 IO (255) (io), V3 IO (253) (io), V4 IO (247) (io), V5 IO (242) (io), W1 IO (254) (io), W2 IO (248) (io), W3 IO (244) (io), W4 IO (238) (io), W5 IO (232) (io), Y1 IO (246) (io), Y2 IO (241) (io), Y3 IO (236) (io), Y4 IO (228) (io), Y5 IO (220) (io)
part C pins: A12 nCEO (377) (out), AE12 TCK (178) (in), AE15 CONF_DONE (166) (io), AF11 TMS (179) (in), AF15 nSTATUS (167) (io), B12 TRST (376) (in), B15 TDO (386) (out), L25 CLKLK_FB2p (58) (in), M26 DATA0 (63) (in), N25 DCLK (64) (in), P1 MSEL0 (279) (in), P2 MSEL1 (278) (in), P4 CLKLK_ENA (276) (in), P25 TDI (67) (in), P26 nCE (66) (in), R1 nCONFIG (275) (in), R23 CLKLK_OUT2p (79) (out)
part D pins: A14 VCCINT (power), AB3 VCCINT (power), AB4 GND (power), AB5 GND (power), AB25 VCCINT (power), AC3 GND (power), AC22 GND (power), AC23 GND (power), AC24 GND (power), AD2 GND (power), AD13 GND (power), AD25 GND (power), AE1 GND (power), AE13 GND (power), AE26 GND (power), AF13 VCCINT (power), AF14 VCCINT (power), B1 GND (power), B13 GND (power), B14 VCCINT (power), B26 GND (power), C2 GND (power), C13 GND (power), C25 GND (power), D3 GND (power), D4 GND (power), D22 GND (power), D23 GND (power), D24 GND (power), E1 VCCINT (power), E5 GND (power), E23 VCCINT (power), H1 VCCINT (power), J23 VCCINT (power), K24 VCC_CKLK4 (49) (power), L1 VCCINT (power), L22 GND_CKLK4 (50/51) (power), M25 VCCINT (power), N3 GND (power), N4 GND (power), N5 GND (power), N22 GND (power), N23 GND (power), N24 GND (power), P23 VCC_CKLK2 (72) (power), P24 GND_CKLK2 (69/70) (power), R2 VCCINT (power), R24 GND_CKOUT2 (75) (power), R25 VCC_CKOUT2 (74) (power), T22 VCCINT (power), U4 VCCINT (power), Y26 VCCINT (power)

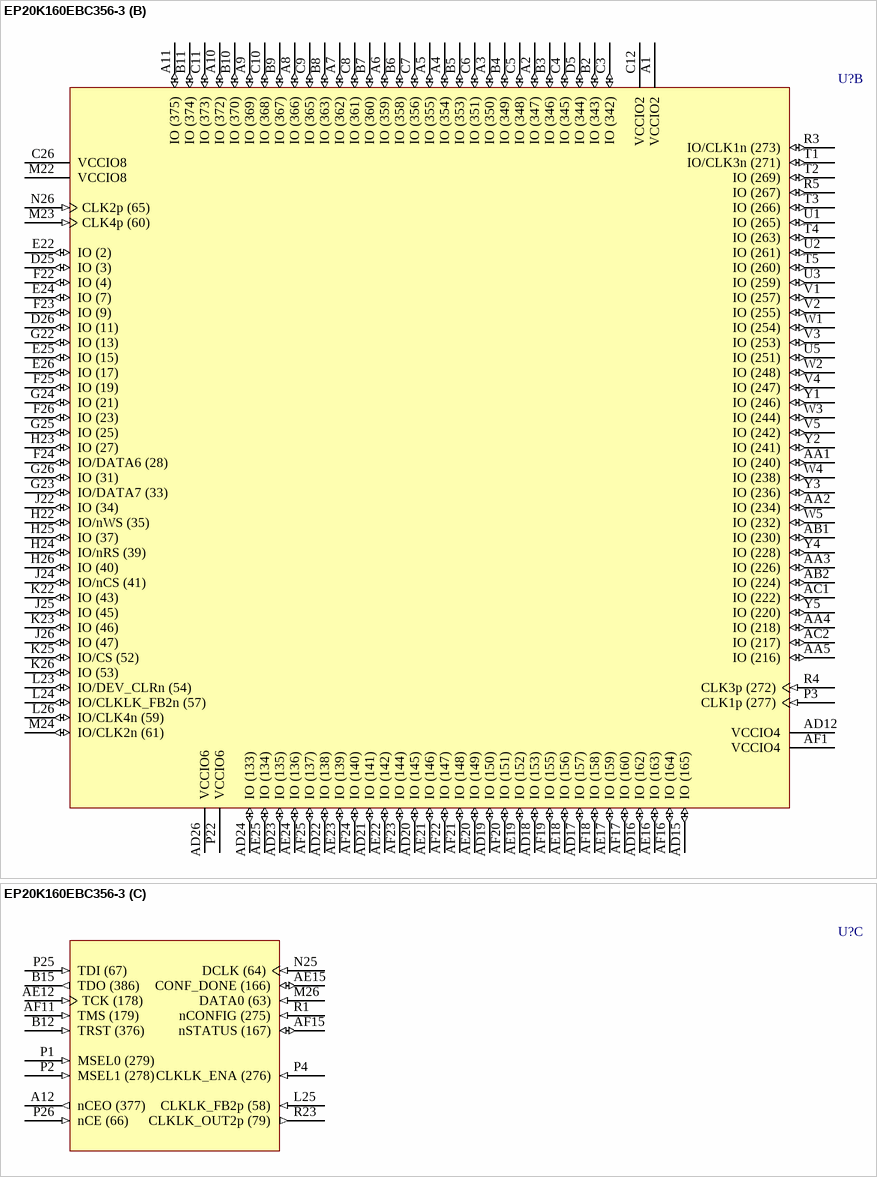
[diagram p121: symbol EP20K160EBC356-3]

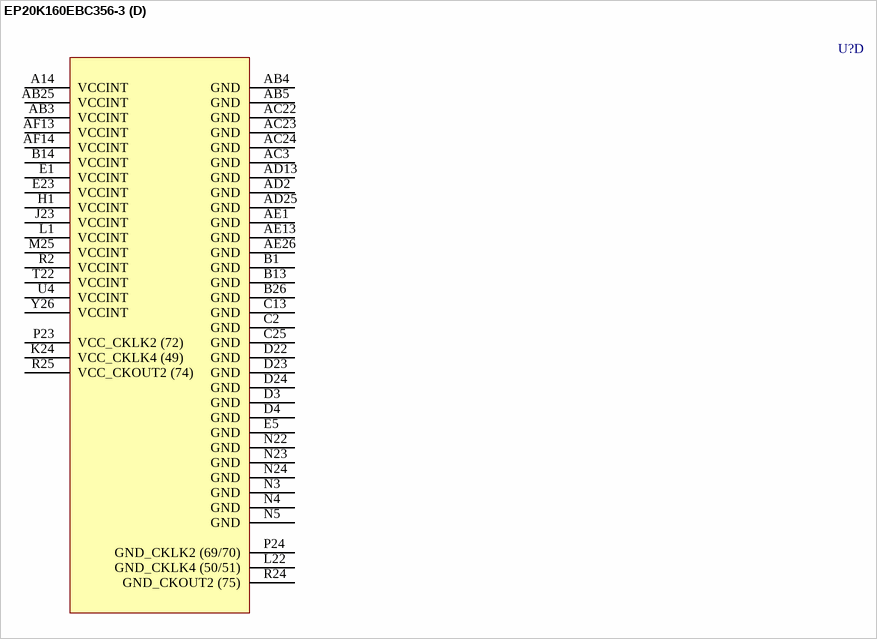
[diagram p122: symbol EP20K160EBC356-3]